# Altium schematic symbol library 430 integreted.SchLib: 270 symbols (part 1 of 2)
Pins are listed as number, name and electrical type; pins without a type are passive.

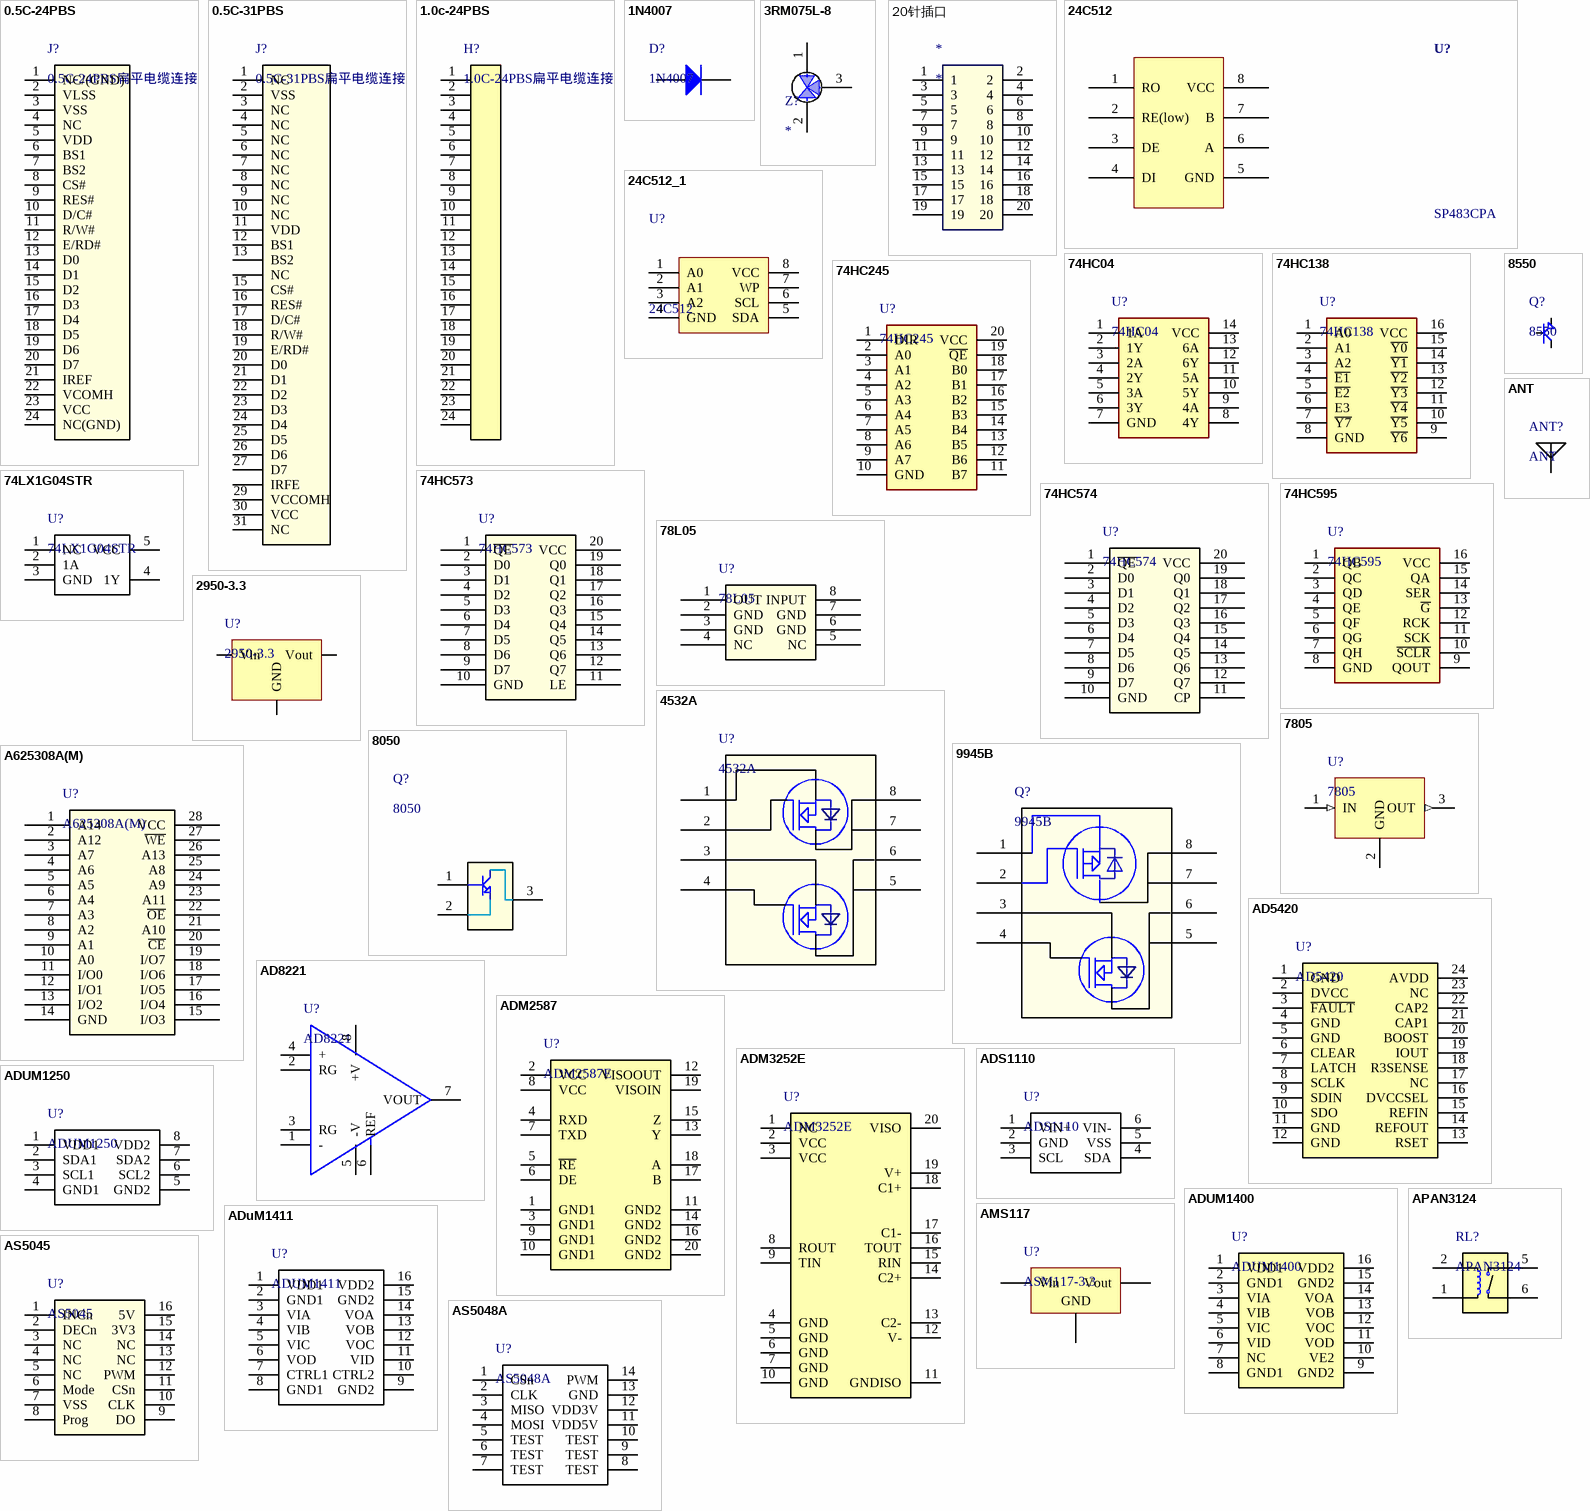
[diagram p0: symbols 0.5C-24PBS to AS5048A]

## 0.5C-24PBS
designator J?, comment 0.5C-24PBS扁平电缆连接器
footprint 0.5C-24PBS
pins: 1 NC/(GND), 2 VLSS, 3 VSS, 4 NC, 5 VDD, 6 BS1, 7 BS2, 8 CS#, 9 RES#, 10 D/C#, 11 R/W#, 12 E/RD#, 13 D0, 14 D1, 15 D2, 16 D3, 17 D4, 18 D5, 19 D6, 20 D7, 21 IREF, 22 VCOMH, 23 VCC, 24 NC(GND)

## 0.5C-31PBS
designator J?, comment 0.5C-31PBS扁平电缆连接器
footprint 0.5C-31PBS
pins: 1 NC, 2 VSS, 3 NC, 4 NC, 5 NC, 6 NC, 7 NC, 8 NC, 9 NC, 10 NC, 11 VDD, 12 BS1, 13 BS2, 14 NC, 15 CS#, 16 RES#, 17 D/C#, 18 R/W#, 19 E/RD#, 20 D0, 21 D1, 22 D2, 23 D3, 24 D4, 25 D5, 26 D6, 27 D7, 28 IRFE, 29 VCCOMH, 30 VCC, 31 NC

## 1.0c-24PBS
designator H?, comment 1.0C-24PBS扁平电缆连接器
footprint FPC1.0C-24PBS
pins: 1, 2, 3, 4, 5, 6, 7, 8, 9, 10, 11, 12, 13, 14, 15, 16, 17, 18, 19, 20, 21, 22, 23, 24

## 1N4007
designator D?
footprint DO-41
footprint SQ040
pins: 1 A, 2 K

## 3RM075L-8
designator Z?
3RM075L-8
footprint 1080
pins: 1, 2, 3

## 20针插口
designator *
footprint IDC20-M
pins: 1, 2, 3, 4, 5, 6, 7, 8, 9, 10, 11, 12, 13, 14, 15, 16, 17, 18, 19, 20

## 24C512
designator U?, comment SP483CPA
footprint SO-8
pins: 1 RO, 2 RE(low), 3 DE, 4 DI, 5 GND, 6 A, 7 B, 8 VCC

## 24C512_1
designator U?, comment 24C512
footprint SO-8
pins: 1 A0, 2 A1, 3 A2, 4 GND, 5 SDA, 6 SCL, 7 WP, 8 VCC

## 74HC04
designator U?
footprint DIP14 - duplicate
pins: 1 1A, 2 1Y, 3 2A, 4 2Y, 5 3A, 6 3Y, 7 GND, 8 4Y, 9 4A, 10 5Y, 11 5A, 12 6Y, 13 6A, 14 VCC

## 74HC138
designator U?
footprint DIP16
pins: 1 A0, 2 A1, 3 A2, 4 ~{E1}, 5 ~{E2}, 6 E3, 7 ~{Y7}, 8 GND, 9 ~{Y6}, 10 ~{Y5}, 11 ~{Y4}, 12 ~{Y3}, 13 ~{Y2}, 14 ~{Y1}, 15 ~{Y0}, 16 VCC

## 74HC245
designator U?
footprint DIP20
pins: 1 DIR, 2 A0, 3 A1, 4 A2, 5 A3, 6 A4, 7 A5, 8 A6, 9 A7, 10 GND, 11 B7, 12 B6, 13 B5, 14 B4, 15 B3, 16 B2, 17 B1, 18 B0, 19 ~{QE}, 20 VCC

## 74HC573
designator U?
footprint SOIC20
pins: 1 ~{QE}, 2 D0, 3 D1, 4 D2, 5 D3, 6 D4, 7 D5, 8 D6, 9 D7, 10 GND, 11 LE, 12 Q7, 13 Q6, 14 Q5, 15 Q4, 16 Q3, 17 Q2, 18 Q1, 19 Q0, 20 VCC

## 74HC574
designator U?
footprint SSOP-20
pins: 1 ~{QE}, 2 D0, 3 D1, 4 D2, 5 D3, 6 D4, 7 D5, 8 D6, 9 D7, 10 GND, 11 CP, 12 Q7, 13 Q6, 14 Q5, 15 Q4, 16 Q3, 17 Q2, 18 Q1, 19 Q0, 20 VCC

## 74HC595
designator U?
footprint DIP16
pins: 1 QB, 2 QC, 3 QD, 4 QE, 5 QF, 6 QG, 7 QH, 8 GND, 9 QOUT, 10 ~{SCLR}, 11 SCK, 12 RCK, 13 ~{G}, 14 SER, 15 QA, 16 VCC

## 74LX1G04STR
designator U?
footprint SOT23-5
pins: 1 NC, 2 1A, 3 GND, 4 1Y, 5 VCC

## 78L05
designator U?
footprint SO-8
pins: 1 OUT, 2 GND, 3 GND, 4 NC, 5 NC, 6 GND, 7 GND, 8 INPUT

## 2950-3.3
designator U?
footprint TO-92A
pins: 1 Vin, 2 GND, 3 Vout

## 4532A
designator U?
footprint SO-8
pins: 1, 2 S, 2, 3, 4, 5, 6, 7, 8

## 7805
designator U?
footprint 7805
pins: 1 IN (in), 2 GND, 3 OUT (out)

## 8050
designator Q?
footprint SOP-23A - duplicate
pins: 1, 2, 3

## 8550
designator Q?
footprint SOT-23_A
pins: 1 B (in), 2 C, 3 E

## 9945B
designator Q?
footprint SO-8
pins: 1, 2, 3, 4, 5, 6, 7, 8

## A625308A(M)
designator U?
footprint SOIC-SO28_M
pins: 1 A14, 2 A12, 3 A7, 4 A6, 5 A5, 6 A4, 7 A3, 8 A2, 9 A1, 10 A0, 11 I/O0, 12 I/O1, 13 I/O2, 14 GND, 15 I/O3, 16 I/O4, 17 I/O5, 18 I/O6, 19 I/O7, 20 ~{CE}, 21 A10, 22 ~{OE}, 23 A11, 24 A9, 25 A8, 26 A13, 27 ~{WE}, 28 VCC

## AD5420
designator U?
footprint SOP24
pins: 1 GND, 2 DVCC, 3 ~{FAULT}, 4 GND, 5 GND, 6 CLEAR, 7 LATCH, 8 SCLK, 9 SDIN, 10 SDO, 11 GND, 12 GND, 13 RSET, 14 REFOUT, 15 REFIN, 16 DVCCSEL, 17 NC, 18 R3SENSE, 19 IOUT, 20 BOOST, 21 CAP1, 22 CAP2, 23 NC, 24 AVDD

## AD8221
designator U?
footprint MSOP-8
pins: 1 -, 2 RG, 3 RG, 4 +, 5 -V, 6 REF, 7 VOUT, 8 +V

## ADM2587
designator U?, comment ADM2587E
footprint SOIC20
pins: 1 GND1, 2 VCC, 3 GND1, 4 RXD, 5 ~{RE}, 6 DE, 7 TXD, 8 VCC, 9 GND1, 10 GND1, 11 GND2, 12 VISOOUT, 13 Y, 14 GND2, 15 Z, 16 GND2, 17 B, 18 A, 19 VISOIN, 20 GND2

## ADM3252E
designator U?
footprint SOIC20
pins: 1 NC, 2 VCC, 3 VCC, 4 GND, 5 GND, 6 GND, 7 GND, 8 ROUT, 9 TIN, 10 GND, 11 GNDISO, 12 V-, 13 C2-, 14 C2+, 15 RIN, 16 TOUT, 17 C1-, 18 C1+, 19 V+, 20 VISO

## ADS1110
designator U?
footprint SOT23-6L
pins: 1 VIN+, 2 GND, 3 SCL, 4 SDA, 5 VSS, 6 VIN-

## ADUM1250
designator U?
footprint SO-8
pins: 1 VDD1, 2 SDA1, 3 SCL1, 4 GND1, 5 GND2, 6 SCL2, 7 SDA2, 8 VDD2

## ADUM1400
designator U?
footprint SOIC16
pins: 1 VDD1, 2 GND1, 3 VIA, 4 VIB, 5 VIC, 6 VID, 7 NC, 8 GND1, 9 GND2, 10 VE2, 11 VOD, 12 VOC, 13 VOB, 14 VOA, 15 GND2, 16 VDD2

## ADuM1411
designator U?, comment ADUM1411
footprint SOIC16
pins: 1 VDD1, 2 GND1, 3 VIA, 4 VIB, 5 VIC, 6 VOD, 7 CTRL1, 8 GND1, 9 GND2, 10 CTRL2, 11 VID, 12 VOC, 13 VOB, 14 VOA, 15 GND2, 16 VDD2

## AMS117
designator U?, comment ASM117-3.3
footprint SOT-223
footprint TO-220
pins: 1 GND, 2 Vout, 3 Vin

## ANT
designator ANT?
footprint ANT
pins: 1

## APAN3124
designator RL?
footprint APAN3124
pins: 1, 2, 5, 6

## AS5045
designator U?
footprint SOP16
pins: 1 INCn, 2 DECn, 3 NC, 4 NC, 5 NC, 6 Mode, 7 VSS, 8 Prog, 9 DO, 10 CLK, 11 CSn, 12 PWM, 13 NC, 14 NC, 15 3V3, 16 5V

## AS5048A
designator U?
footprint TSSOP14
pins: 1 CSn, 2 CLK, 3 MISO, 4 MOSI, 5 TEST, 6 TEST, 7 TEST, 8 TEST, 9 TEST, 10 TEST, 11 VDD5V, 12 VDD3V, 13 GND, 14 PWM

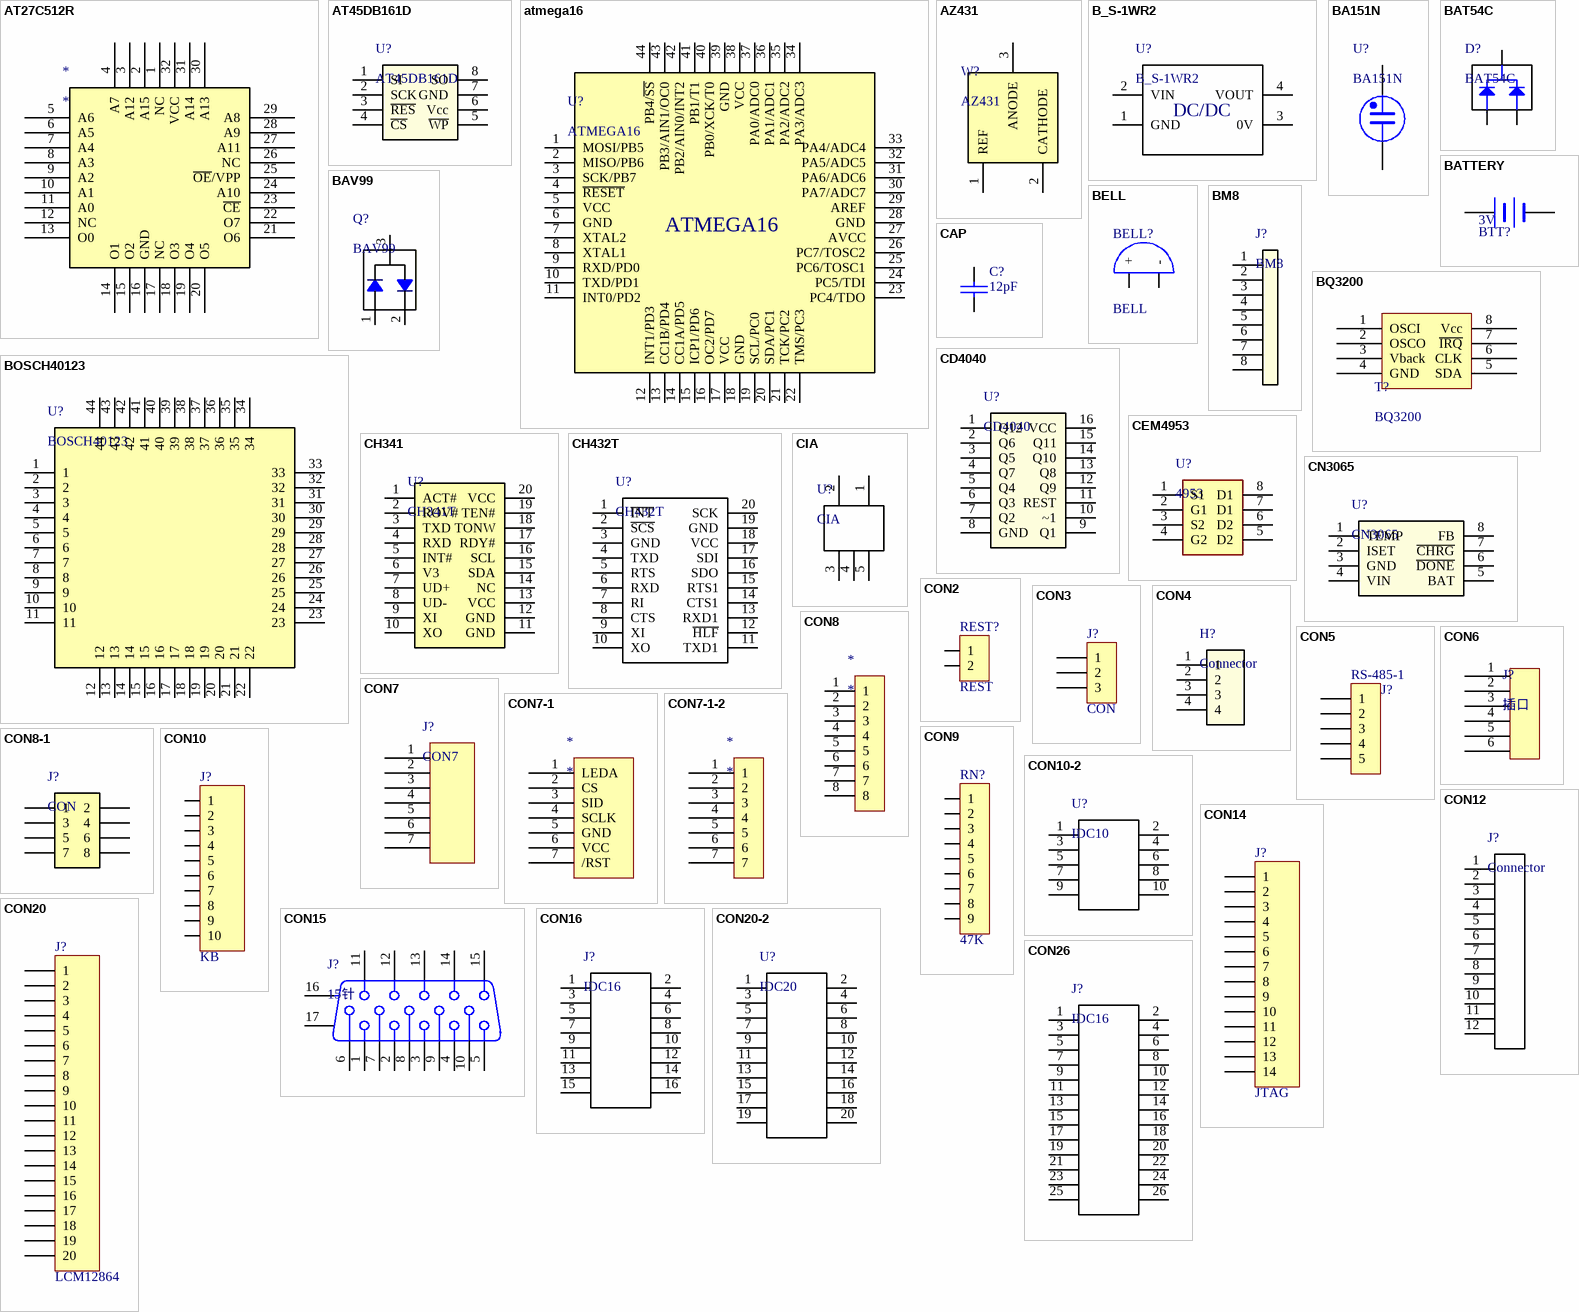
[diagram p1: symbols AT27C512R to CON26]

## AT27C512R
designator *
pins: 1 NC, 2 A15, 3 A12, 4 A7, 5 A6, 6 A5, 7 A4, 8 A3, 9 A2, 10 A1, 11 A0, 12 NC, 13 O0, 14 O1, 15 O2, 16 GND, 17 NC, 18 O3, 19 O4, 20 O5, 21 O6, 22 O7, 23 ~{CE}, 24 A10, 25 ~{OE}/VPP, 26 NC, 27 A11, 28 A9, 29 A8, 30 A13, 31 A14, 32 VCC

## AT45DB161D
designator U?
footprint SOIC8
pins: 1 SI, 2 SCK, 3 ~{RES}, 4 ~{CS}, 5 ~{WP}, 6 Vcc, 7 GND, 8 SO

## atmega16
designator U?, comment ATMEGA16
footprint Quad44
pins: 1 MOSI/PB5, 2 MISO/PB6, 3 SCK/PB7, 4 ~{RESET}, 5 VCC, 6 GND, 7 XTAL2, 8 XTAL1, 9 RXD/PD0, 10 TXD/PD1, 11 INT0/PD2, 12 INT1/PD3, 13 CC1B/PD4, 14 CC1A/PD5, 15 ICP1/PD6, 16 OC2/PD7, 17 VCC, 18 GND, 19 SCL/PC0, 20 SDA/PC1, 21 TCK/PC2, 22 TMS/PC3, 23 PC4/TDO, 24 PC5/TDI, 25 PC6/TOSC1, 26 PC7/TOSC2, 27 AVCC, 28 GND, 29 AREF, 30 PA7/ADC7, 31 PA6/ADC6, 32 PA5/ADC5, 33 PA4/ADC4, 34 PA3/ADC3, 35 PA2/ADC2, 36 PA1/ADC1, 37 PA0/ADC0, 38 VCC, 39 GND, 40 PB0/XCK/T0, 41 PB1/T1, 42 PB2/AIN0/INT2, 43 PB3/AIN1/OC0, 44 PB4/~{SS}

## AZ431
designator W?
footprint SOT-23
pins: 1 REF, 2 CATHODE, 3 ANODE

## B_S-1WR2
designator U?
footprint B_S-1WR2
pins: 1 GND, 2 VIN, 3 0V, 4 VOUT
text: DC/DC

## BA151N
designator U?
footprint BA151
pins: 1, 2

## BAT54C
designator D?
footprint SOT-23_A
pins: 1, 2, 3

## BATTERY
designator BTT?, comment 3V
Battery
footprint CR1220
footprint CR1/3N
pins: 1, 2

## BAV99
designator Q?
footprint SOT-23
pins: 1, 2, 3

## BELL
designator BELL?
footprint BELL_12V
footprint BEEP-9*5.5mm
pins: 1 +, 2 -

## BM8
designator J?
footprint TO8
footprint SI-8
footprint SI-8-I
pins: 1, 2, 3, 4, 5, 6, 7, 8

## BOSCH40123
designator U?
pins: 1, 2, 3, 4, 5, 6, 7, 8, 9, 10, 11, 12, 13, 14, 15, 16, 17, 18, 19, 20, 21, 22, 23, 24, 25, 26, 27, 28, 29, 30, 31, 32, 33, 34, 35, 36, 37, 38, 39, 40, 41, 42, 43, 44

## BQ3200
designator T?
footprint SOP8
pins: 1 OSCI, 2 OSCO, 3 Vback, 4 GND, 5 SDA, 6 CLK, 7 ~{IRQ}, 8 Vcc

## CAP
designator C?, comment 12pF
Capacitor
footprint 0805
footprint 0805-O
footprint 0402-1
footprint 0805-1
footprint C0805
footprint C0603
footprint C0402
footprint C1206
pins: 1, 2

## CD4040
designator U?
footprint SO-16
pins: 1 Q12, 2 Q6, 3 Q5, 4 Q7, 5 Q4, 6 Q3, 7 Q2, 8 GND, 9 Q1, 10 ~1, 11 REST, 12 Q9, 13 Q8, 14 Q10, 15 Q11, 16 VCC

## CEM4953
designator U?, comment 4953
pins: 1 S1, 2 G1, 3 S2, 4 G2, 5 D2, 6 D2, 7 D1, 8 D1

## CH341
designator U?, comment CH341T
footprint SSOP-20
pins: 1 ACT#, 2 ROV#, 3 TXD, 4 RXD, 5 INT#, 6 V3, 7 UD+, 8 UD-, 9 XI, 10 XO, 11 GND, 12 GND, 13 VCC, 14 NC, 15 SDA, 16 SCL, 17 RDY#, 18 TONW, 19 TEN#, 20 VCC

## CH432T
designator U?
footprint SSOP-20
pins: 1 ~{INT}, 2 ~{SCS}, 3 GND, 4 TXD, 5 RTS, 6 RXD, 7 RI, 8 CTS, 9 XI, 10 XO, 11 TXD1, 12 ~{HLF}, 13 RXD1, 14 CTS1, 15 RTS1, 16 SDO, 17 SDI, 18 VCC, 19 GND, 20 SCK

## CIA
designator U?
pins: 1, 2, 3, 4, 5

## CN3065
designator U?
footprint DFN8
footprint DFN8
pins: 1 TEMP, 2 ISET, 3 GND, 4 VIN, 5 BAT, 6 ~{DONE}, 7 ~{CHRG}, 8 FB

## CON2
designator REST?, comment REST
Connector
footprint SIP2
footprint XH2.54-2P_直
footprint SIP2-5.08
footprint SIP2-4.8
footprint POT2
footprint CON2-5.08
footprint XH2.54-2
footprint XH1.25
footprint SIP2mm-2
footprint SIP1.27mm-2
footprint CON1.25mm
footprint 2PIN-5.08A
pins: 1, 2

## CON3
designator J?, comment CON
Connector
footprint XH2.54-3P_直
footprint YP
footprint SIP2mm-3
footprint SIP1.27mm-3
pins: 1, 2, 3

## CON4
designator H?, comment Connector
footprint XH2.54-4P_直
footprint CH2.5-4
footprint POT4
footprint PUOT4
footprint SIP2mm-4
footprint SIP1.27mm-4
footprint EELK508V-4
pins: 1, 2, 3, 4

## CON5
designator J?, comment RS-485-1
Connector
footprint XH2.54-5P_直
footprint SIP-5
footprint CH2.5-5
footprint SIP5.0-5
pins: 1, 2, 3, 4, 5

## CON6
designator J?, comment 插口
footprint XH2.54-6P_直
footprint SIP6
footprint SIP6-1
footprint CH2.5-6
footprint CON6-1
footprint CON6-1
footprint CON6-5.08
footprint FPC6PIN-0.5
footprint EELK508V-6
pins: 1, 2, 3, 4, 5, 6

## CON7
designator J?
footprint XH2.54-7P_直
footprint A1251(TX)
pins: 1, 2, 3, 4, 5, 6, 7

## CON7-1
designator *
footprint SIP-7
pins: 1 LEDA, 2 CS, 3 SID, 4 SCLK, 5 GND, 6 VCC, 7 /RST

## CON7-1-2
designator *
footprint SIP-7
pins: 1, 2, 3, 4, 5, 6, 7

## CON8
designator *
footprint DIP8
footprint XH2.54-8P_弯
footprint A1251(TX)
footprint SIP2mm-8
footprint SIP1.27mm-8
pins: 1, 2, 3, 4, 5, 6, 7, 8

## CON8-1
designator J?, comment CON
pins: 1, 2, 3, 4, 5, 6, 7, 8

## CON9
designator RN?, comment 47K
Connector
footprint SIP9
pins: 1, 2, 3, 4, 5, 6, 7, 8, 9

## CON10
designator J?, comment KB
Connector
footprint SIP10
footprint CON10
footprint DIP10 - duplicate
footprint SIP10-5.0
footprint XH2.54-10P_直 - duplicate
pins: 1, 2, 3, 4, 5, 6, 7, 8, 9, 10

## CON10-2
designator U?, comment IDC10
pins: 1, 2, 3, 4, 5, 6, 7, 8, 9, 10

## CON12
designator J?, comment Connector
pins: 1, 2, 3, 4, 5, 6, 7, 8, 9, 10, 11, 12

## CON14
designator J?, comment JTAG
Connector
footprint IDC14W
footprint 15EDGRC-3.5-14P
pins: 1, 2, 3, 4, 5, 6, 7, 8, 9, 10, 11, 12, 13, 14

## CON15
designator J?, comment 15针
footprint CON15
pins: 1, 2, 3, 4, 5, 6, 7, 8, 9, 10, 11, 12, 13, 14, 15, 16 MH1, 17 MH2

## CON16
designator J?, comment IDC16
footprint IDC2.54-16
pins: 1, 2, 3, 4, 5, 6, 7, 8, 9, 10, 11, 12, 13, 14, 15, 16

## CON20
designator J?, comment LCM12864
Connector
footprint IDC20-M
footprint DIP20
pins: 1, 2, 3, 4, 5, 6, 7, 8, 9, 10, 11, 12, 13, 14, 15, 16, 17, 18, 19, 20

## CON20-2
designator U?, comment IDC20
pins: 1, 2, 3, 4, 5, 6, 7, 8, 9, 10, 11, 12, 13, 14, 15, 16, 17, 18, 19, 20

## CON26
designator J?, comment IDC16
footprint IDC2.54-26
pins: 1, 2, 3, 4, 5, 6, 7, 8, 9, 10, 11, 12, 13, 14, 15, 16, 17, 18, 19, 20, 21, 22, 23, 24, 25, 26

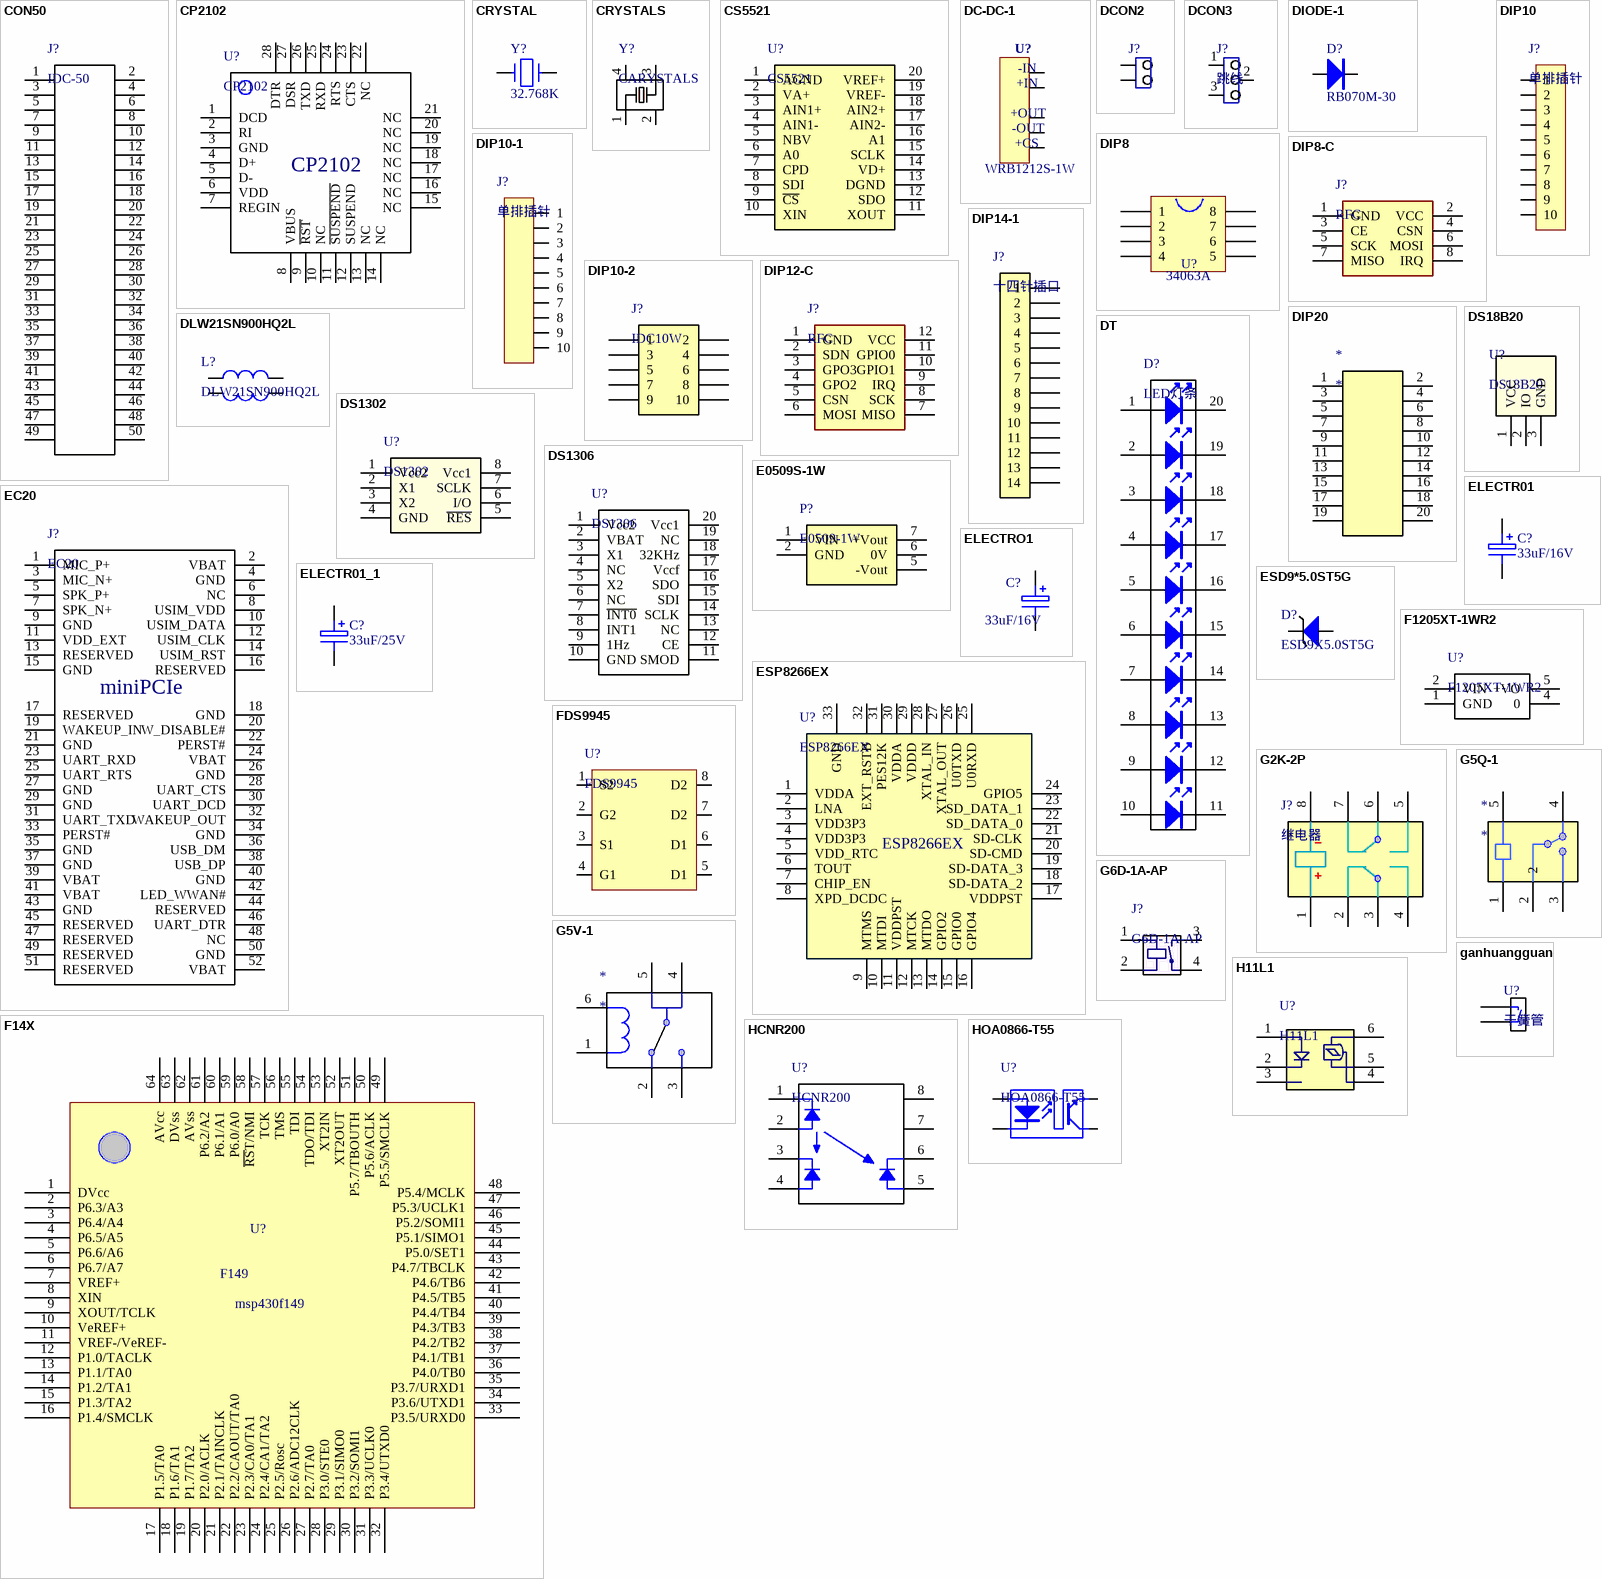
[diagram p2: symbols CON50 to HOA0866-T55]

## CON50
designator J?, comment IDC-50
footprint IDC2X25-50
pins: 1, 2, 3, 4, 5, 6, 7, 8, 9, 10, 11, 12, 13, 14, 15, 16, 17, 18, 19, 20, 21, 22, 23, 24, 25, 26, 27, 28, 29, 30, 31, 32, 33, 34, 35, 36, 37, 38, 39, 40, 41, 42, 43, 44, 45, 46, 47, 48, 49, 50

## CP2102
designator U?
footprint QFN28N (QFN, 28-Leads, Body 5.0x5.0mm (max), Pitch 0.50mm, IPC Medium Density)
pins: 1 DCD, 2 RI, 3 GND, 4 D+, 5 D-, 6 VDD, 7 REGIN, 8 VBUS, 9 ~{RST}, 10 NC, 11 ~{SUSPEND}, 12 SUSPEND, 13 NC, 14 NC, 15 NC, 16 NC, 17 NC, 18 NC, 19 NC, 20 NC, 21 NC, 22 NC, 23 CTS, 24 RTS, 25 RXD, 26 TXD, 27 DSR, 28 DTR

## CRYSTAL
designator Y?, comment 32.768K
Crystal
footprint CR32768
footprint CM200S
footprint CRS
footprint 3225
footprint XTAL-QC49/SMD
footprint XTAL_32.768 (32.768k柱式晶振（未加焊）)
footprint XTAL_3215
pins: 1, 2

## CRYSTALS
designator Y?, comment CARYSTALS
footprint 2520
pins: 1, 2, 3, 4

## CS5521
designator U?
footprint SSOP-20
pins: 1 AGND, 2 VA+, 3 AIN1+, 4 AIN1-, 5 NBV, 6 A0, 7 CPD, 8 SDI, 9 ~{CS}, 10 XIN, 11 XOUT, 12 SDO, 13 DGND, 14 VD+, 15 SCLK, 16 A1, 17 AIN2-, 18 AIN2+, 19 VREF-, 20 VREF+

## DC-DC-1
designator U?, comment WRB1212S-1W
footprint PART3
pins: 1, 2, 3, 4, 5
text: -IN; +IN; +OUT; -OUT; +CS

## DCON2
designator J?, comment 跳线  (value not drawn)
footprint DIP2
pins: 1, 2

## DCON3
designator J?, comment 跳线
footprint DIP3
pins: 1, 2, 3

## DIODE-1
designator D?, comment RB070M-30
footprint 3216
footprint EMD2
footprint 3528
footprint 3936
footprint SMB
footprint D0805
footprint SOD-323
footprint SOD123
footprint SMA
pins: 1, 2

## DIP8
designator U?, comment 34063A
footprint SO-8
pins: 1, 2, 3, 4, 5, 6, 7, 8

## DIP8-C
designator J?, comment RFC
footprint DIP4-C
pins: 1 GND, 2 VCC, 3 CE, 4 CSN, 5 SCK, 6 MOSI, 7 MISO, 8 IRQ

## DIP10
designator J?, comment 单排插针
footprint DIP10
pins: 1, 2, 3, 4, 5, 6, 7, 8, 9, 10

## DIP10-1
designator J?, comment 单排插针
footprint DIP10
pins: 1, 2, 3, 4, 5, 6, 7, 8, 9, 10

## DIP10-2
designator J?, comment IDC10W
footprint IDC10W
pins: 1, 2, 3, 4, 5, 6, 7, 8, 9, 10

## DIP12-C
designator J?, comment RFC
footprint DIP12-C
pins: 1 GND, 2 SDN, 3 GPO3, 4 GPO2, 5 CSN, 6 MOSI, 7 MISO, 8 SCK, 9 IRQ, 10 GPIO1, 11 GPIO0, 12 VCC

## DIP14-1
designator J?, comment 十四针插口
footprint IDC14W
pins: 1, 2, 3, 4, 5, 6, 7, 8, 9, 10, 11, 12, 13, 14

## DIP20
designator *
footprint IDC20-M
pins: 1, 2, 3, 4, 5, 6, 7, 8, 9, 10, 11, 12, 13, 14, 15, 16, 17, 18, 19, 20

## DLW21SN900HQ2L
designator L?
footprint SMD-4
pins: 1, 2, 3, 4

## DS18B20
designator U?
footprint TO-92A
pins: 1 VCC, 2 IO, 3 GND

## DS1302
designator U?
footprint SO-8
pins: 1 Vcc2, 2 X1, 3 X2, 4 GND, 5 ~{RES}, 6 I/O, 7 SCLK, 8 Vcc1

## DS1306
designator U?
footprint SOP20 - duplicate
pins: 1 Vcc2, 2 VBAT, 3 X1, 4 NC, 5 X2, 6 NC, 7 ~{INT0}, 8 INT1, 9 1Hz, 10 GND, 11 SMOD, 12 CE, 13 NC, 14 SCLK, 15 SDI, 16 SDO, 17 Vccf, 18 32KHz, 19 NC, 20 Vcc1

## DT
designator D?, comment LED灯条
footprint DT
pins: 1, 1, 1, 1, 1, 1, 1, 1, 1, 1, 1, 2, 2, 2, 2, 2, 2, 2, 2, 2, 2, 2, 3, 4, 5, 6, 7, 8, 9, 10, 11, 12, 13, 14, 15, 16, 17, 18, 19, 20

## E0509S-1W
designator P?, comment E0509-1W
footprint E0509
pins: 1 VIN, 2 GND, 5 -Vout, 6 0V, 7 +Vout

## EC20
designator J?
footprint miniPCIe
pins: 1 MIC_P+, 2 VBAT, 3 MIC_N+, 4 GND, 5 SPK_P+, 6 NC, 7 SPK_N+, 8 USIM_VDD, 9 GND, 10 USIM_DATA, 11 VDD_EXT, 12 USIM_CLK, 13 RESERVED, 14 USIM_RST, 15 GND, 16 RESERVED, 17 RESERVED, 18 GND, 19 WAKEUP_IN, 20 W_DISABLE#, 21 GND, 22 PERST#, 23 UART_RXD, 24 VBAT, 25 UART_RTS, 26 GND, 27 GND, 28 UART_CTS, 29 GND, 30 UART_DCD, 31 UART_TXD, 32 WAKEUP_OUT, 33 PERST#, 34 GND, 35 GND, 36 USB_DM, 37 GND, 38 USB_DP, 39 VBAT, 40 GND, 41 VBAT, 42 LED_WWAN#, 43 GND, 44 RESERVED, 45 RESERVED, 46 UART_DTR, 47 RESERVED, 48 NC, 49 RESERVED, 50 GND, 51 RESERVED, 52 VBAT
text: miniPCIe

## ELECTR01
designator C?, comment 33uF/16V
footprint MLL41
footprint 3528
footprint 0.5C-24PBS
footprint C10x16
footprint C5X8
footprint C3216
footprint C13x20
pins: 1, 2

## ELECTR01_1
designator C?, comment 33uF/25V
footprint 7243
pins: 1, 2

## ELECTRO1
designator C?, comment 33uF/16V
Electrolytic Capacitor
footprint MLL41
footprint C7343 (D型)
footprint C10X10
footprint C8*10
footprint C3258
footprint C6.3X6.3
pins: 1, 2

## ESD9*5.0ST5G
designator D?, comment ESD9X5.0ST5G
footprint SOD-923
footprint SOD523
pins: 1, 2

## ESP8266EX
designator U?
footprint QFN32
pins: 1 VDDA, 2 LNA, 3 VDD3P3, 4 VDD3P3, 5 VDD_RTC, 6 TOUT, 7 CHIP_EN, 8 XPD_DCDC, 9 MTMS, 10 MTDI, 11 VDDPST, 12 MTCK, 13 MTDO, 14 GPIO2, 15 GPIO0, 16 GPIO4, 17 VDDPST, 18 SD-DATA_2, 19 SD-DATA_3, 20 SD-CMD, 21 SD-CLK, 22 SD_DATA_0, 23 SD_DATA_1, 24 GPIO5, 25 U0RXD, 26 U0TXD, 27 XTAL_OUT, 28 XTAL_IN, 29 VDDD, 30 VDDA, 31 PES12K, 32 EXT_RSTB, 33 GND

## F14X
designator U?, comment F149
footprint PQFP64_1
footprint QFP-G64
pins: 1 DVcc (power), 2 P6.3/A3 (power), 3 P6.4/A4 (power), 4 P6.5/A5 (power), 5 P6.6/A6 (power), 6 P6.7/A7 (power), 7 VREF+ (power), 8 XIN (power), 9 XOUT/TCLK (power), 10 VeREF+ (power), 11 VREF-/VeREF- (power), 12 P1.0/TACLK (power), 13 P1.1/TA0 (power), 14 P1.2/TA1 (power), 15 P1.3/TA2 (power), 16 P1.4/SMCLK (power), 17 P1.5/TA0 (power), 18 P1.6/TA1 (power), 19 P1.7/TA2 (power), 20 P2.0/ACLK (power), 21 P2.1/TAINCLK (power), 22 P2.2/CAOUT/TA0 (power), 23 P2.3/CA0/TA1 (power), 24 P2.4/CA1/TA2 (power), 25 P2.5/Rosc (power), 26 P2.6/ADC12CLK (power), 27 P2.7/TA0 (power), 28 P3.0/STE0 (power), 29 P3.1/SIMO0 (power), 30 P3.2/SOMI1 (power), 31 P3.3/UCLK0 (power), 32 P3.4/UTXD0 (power), 33 P3.5/URXD0 (power), 34 P3.6/UTXD1 (power), 35 P3.7/URXD1 (power), 36 P4.0/TB0 (power), 37 P4.1/TB1 (power), 38 P4.2/TB2 (power), 39 P4.3/TB3 (power), 40 P4.4/TB4 (power), 41 P4.5/TB5 (power), 42 P4.6/TB6 (power), 43 P4.7/TBCLK (power), 44 P5.0/SET1 (power), 45 P5.1/SIMO1 (power), 46 P5.2/SOMI1 (power), 47 P5.3/UCLK1 (power), 48 P5.4/MCLK (power), 49 P5.5/SMCLK (power), 50 P5.6/ACLK (power), 51 P5.7/TBOUTH (power), 52 XT2OUT (power), 53 XT2IN (power), 54 TDO/TDI (power), 55 TDI (power), 56 TMS (power), 57 TCK (power), 58 ~{RS}T/NMI (power), 59 P6.0/A0 (power), 60 P6.1/A1 (power), 61 P6.2/A2 (power), 62 AVss (power), 63 DVss (power), 64 AVcc (power)
text: msp430f149

## F1205XT-1WR2
designator U?
footprint F_XT-1WR2
pins: 1 GND, 2 VIN, 4 0, 5 +VO

## FDS9945
designator U?
footprint SO-8
pins: 1 S2, 2 G2, 3 S1, 4 G1, 5 D1, 6 D1, 7 D2, 8 D2

## G2K-2P
designator J?, comment 继电器
footprint G6K-2P
pins: 1, 2, 3, 4, 5, 6, 7, 8

## G5Q-1
designator *
footprint G5Q-1
pins: 1, 2, 3, 4, 5

## G5V-1
designator *
footprint G5V-1
pins: 1, 2, 3, 4, 5, 6

## G6D-1A-AP
designator J?
footprint G6D-1A-AP
pins: 1, 2, 3, 4

## ganhuangguan
designator U?, comment 干簧管
pins: 1, 2

## H11L1
designator U?
footprint SOP6
pins: 1, 2, 3, 4, 5, 6

## HCNR200
designator U?
footprint DIP8-3
pins: 1, 2, 3, 4, 5, 6, 7, 8

## HOA0866-T55
designator U?
pins: 1 A, 2 K, 3 E, 4 C

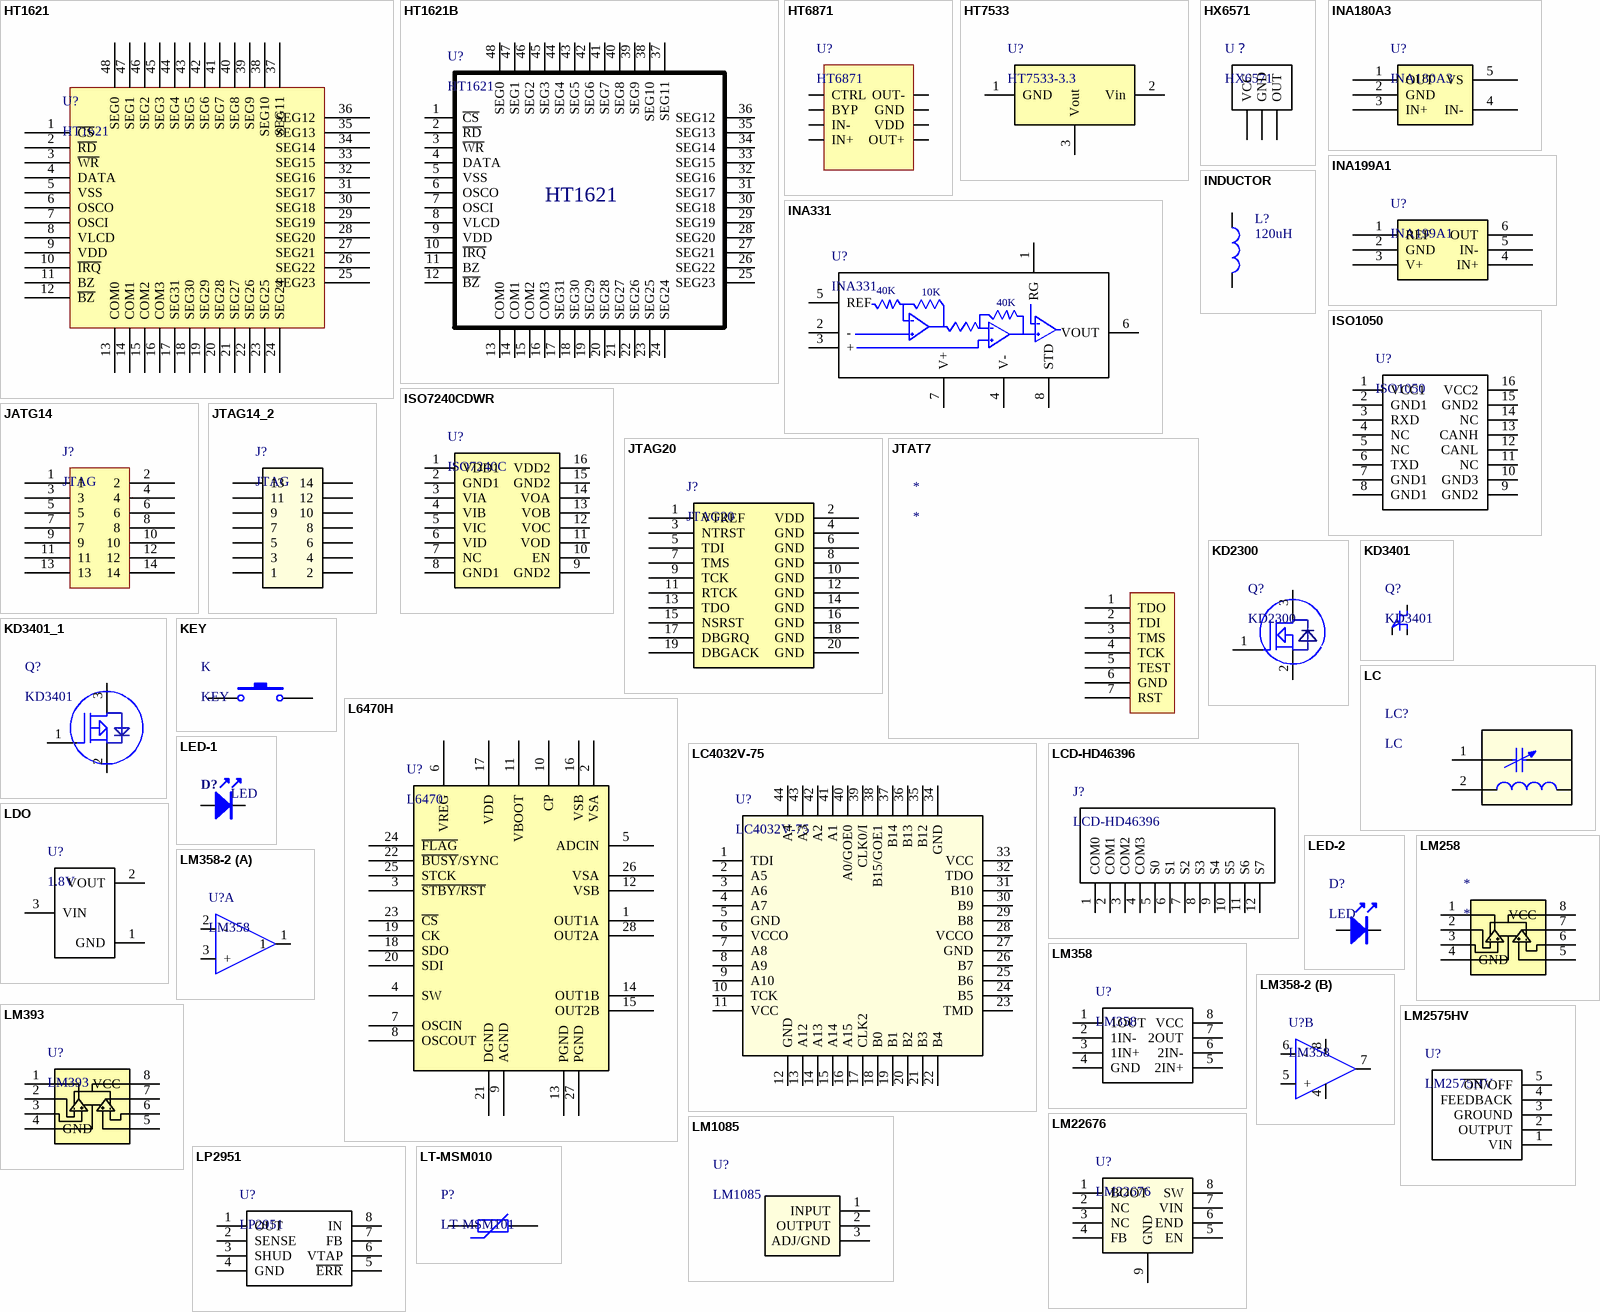
[diagram p3: symbols HT1621 to LT-MSM010]

## HT1621
designator U?
pins: 1 ~{CS}, 2 ~{RD}, 3 ~{WR}, 4 DATA, 5 VSS, 6 OSCO, 7 OSCI, 8 VLCD, 9 VDD, 10 ~{IRQ}, 11 BZ, 12 ~{BZ}, 13 COM0, 14 COM1, 15 COM2, 16 COM3, 17 SEG31, 18 SEG30, 19 SEG29, 20 SEG28, 21 SEG27, 22 SEG26, 23 SEG25, 24 SEG24, 25 SEG23, 26 SEG22, 27 SEG21, 28 SEG20, 29 SEG19, 30 SEG18, 31 SEG17, 32 SEG16, 33 SEG15, 34 SEG14, 35 SEG13, 36 SEG12, 37 SEG11, 38 SEG10, 39 SEG9, 40 SEG8, 41 SEG7, 42 SEG6, 43 SEG5, 44 SEG4, 45 SEG3, 46 SEG2, 47 SEG1, 48 SEG0

## HT1621B
designator U?, comment HT1621
footprint LC-LQFP-48_7x7x05P
pins: 1 ~{CS}, 2 ~{RD}, 3 ~{WR}, 4 DATA, 5 VSS, 6 OSCO, 7 OSCI, 8 VLCD, 9 VDD, 10 ~{IRQ}, 11 BZ, 12 ~{BZ}, 13 COM0, 14 COM1, 15 COM2, 16 COM3, 17 SEG31, 18 SEG30, 19 SEG29, 20 SEG28, 21 SEG27, 22 SEG26, 23 SEG25, 24 SEG24, 25 SEG23, 26 SEG22, 27 SEG21, 28 SEG20, 29 SEG19, 30 SEG18, 31 SEG17, 32 SEG16, 33 SEG15, 34 SEG14, 35 SEG13, 36 SEG12, 37 SEG11, 38 SEG10, 39 SEG9, 40 SEG8, 41 SEG7, 42 SEG6, 43 SEG5, 44 SEG4, 45 SEG3, 46 SEG2, 47 SEG1, 48 SEG0

## HT6871
designator U?
footprint SO-8
pins: 1 CTRL, 2 BYP, 3 IN-, 4 IN+, 5 OUT+, 6 VDD, 7 GND, 8 OUT-

## HT7533
designator U?, comment HT7533-3.3
footprint SOT-89
pins: 1 GND, 2 Vin, 3 Vout

## HX6571
designator U？
pins: 3 VCC, 4 GND, 5 OUT

## INA180A3
designator U?
footprint SOT23-5
pins: 1 OUT, 2 GND, 3 IN+, 4 IN-, 5 VS

## INA199A1
designator U?
pins: 1 REF, 2 GND, 3 V+, 4 IN+, 5 IN-, 6 OUT

## INA331
designator U?
footprint MSOP-8
pins: 1 RG, 2 -, 3 +, 4 V-, 5 REF, 6 VOUT, 7 V+, 8 STD
text: 40K; 10K

## INDUCTOR
designator L?, comment 120uH
footprint 2.5T
footprint XQ6.5
footprint 0505
footprint 0805-1
footprint GDRH127
footprint CD104NP
footprint L0402
footprint L0402
footprint L0603
pins: 1, 2

## ISO1050
designator U?
footprint SOIC16
pins: 1 VCC1, 2 GND1, 3 RXD, 4 NC, 5 NC, 6 TXD, 7 GND1, 8 GND1, 9 GND2, 10 GND3, 11 NC, 12 CANL, 13 CANH, 14 NC, 15 GND2, 16 VCC2

## ISO7240CDWR
designator U?, comment ISO7240C
footprint SOIC16
pins: 1 VDD1, 2 GND1, 3 VIA, 4 VIB, 5 VIC, 6 VID, 7 NC, 8 GND1, 9 GND2, 10 EN, 11 VOD, 12 VOC, 13 VOB, 14 VOA, 15 GND2, 16 VDD2

## JATG14
designator J?, comment JTAG
footprint DIP14
footprint IDC14W
pins: 1, 2, 3, 4, 5, 6, 7, 8, 9, 10, 11, 12, 13, 14

## JTAG14_2
designator J?, comment JTAG
footprint DIP14
pins: 1, 2, 3, 4, 5, 6, 7, 8, 9, 10, 11, 12, 13, 14

## JTAG20
designator J?
footprint IDC2.54-20
pins: 1 VTREF, 2 VDD, 3 NTRST, 4 GND, 5 TDI, 6 GND, 7 TMS, 8 GND, 9 TCK, 10 GND, 11 RTCK, 12 GND, 13 TDO, 14 GND, 15 NSRST, 16 GND, 17 DBGRQ, 18 GND, 19 DBGACK, 20 GND

## JTAT7
designator *
pins: 1 TDO, 2 TDI, 3 TMS, 4 TCK, 5 TEST, 6 GND, 7 RST

## KD2300
designator Q?
footprint SOT-23
footprint TO252
pins: 1 G, 2 S, 3 D

## KD3401
designator Q?
footprint SOT-23
pins: 1 G, 2 S, 3 D

## KD3401_1
designator Q?, comment KD3401
footprint SOT-23_A
footprint TO-252-2(DPAK)-2
pins: 1 G, 2 S, 3 D

## KEY
designator K
footprint KEY-K2
footprint 6*6*5mm
pins: 1, 2

## L6470H
designator U?, comment L6470
footprint HTSSOP28
pins: 1 OUT1A, 2 VSA, 3 ~{STBY/}~{RST}, 4 SW, 5 ADCIN, 6 VREG, 7 OSCIN, 8 OSCOUT, 9 AGND, 10 CP, 11 VBOOT, 12 VSB, 13 PGND, 14 OUT1B, 15 OUT2B, 16 VSB, 17 VDD, 18 SDO, 19 CK, 20 SDI, 21 DGND, 22 ~{BUSY}/SYNC, 23 ~{CS}, 24 ~{FLAG}, 25 STCK, 26 VSA, 27 PGND, 28 OUT2A

## LC
designator LC?
footprint LC
pins: 1, 2

## LC4032V-75
designator U?
pins: 1 TDI, 2 A5, 3 A6, 4 A7, 5 GND, 6 VCCO, 7 A8, 8 A9, 9 A10, 10 TCK, 11 VCC, 12 GND, 13 A12, 14 A13, 15 A14, 16 A15, 17 CLK2, 18 B0, 19 B1, 20 B2, 21 B3, 22 B4, 23 TMD, 24 B5, 25 B6, 26 B7, 27 GND, 28 VCCO, 29 B8, 30 B9, 31 B10, 32 TDO, 33 VCC, 34 GND, 35 B12, 36 B13, 37 B14, 38 B15/GOE1, 39 CLK0/I, 40 A0/GOE0, 41 A1, 42 A2, 43 A3, 44 A4

## LCD-HD46396
designator J?
footprint LCD-HD46396
pins: 1 COM0, 2 COM1, 3 COM2, 4 COM3, 5 S0, 6 S1, 7 S2, 8 S3, 9 S4, 10 S5, 11 S6, 12 S7

## LDO
designator U?, comment 1.8V
footprint SOT-23_A
pins: 1 GND, 2 VOUT, 3 VIN

## LED-1
designator D?, comment LED
footprint 3216
footprint 0805-L
pins: 1, 2

## LED-2
designator D?, comment LED
footprint 0603LED R
footprint 0402LED
footprint 0603LED B
footprint 0603LED G
footprint LED0805G
pins: 1, 2

## LM258
designator *
footprint SO-8
pins: 1, 2, 3, 4 GND, 5, 6, 7, 8 VCC

## LM358
designator U?
footprint SO-8
pins: 1 1OUT, 2 1IN-, 3 1IN+, 4 GND, 5 2IN+, 6 2IN-, 7 2OUT, 8 VCC

## LM358-2
designator U?, comment LM358
footprint SO-8
part A pins: 1, 2 -, 3 +
part B pins: 4, 5 +, 6 -, 7, 8

## LM393
designator U?
footprint SOP8-2
footprint SO-8
pins: 1, 2, 3, 4 GND, 5, 6, 7, 8 VCC

## LM1085
designator U?
footprint KTT0003B
pins: 1 INPUT, 2 OUTPUT, 3 ADJ/GND

## LM2575HV
designator U?
footprint TO-263
pins: 1 VIN, 2 OUTPUT, 3 GROUND, 4 FEEDBACK, 5 ~{ON}/OFF

## LM22676
designator U?
footprint SOP8-3
pins: 1 BOOT, 2 NC, 3 NC, 4 FB, 5 EN, 6 END, 7 VIN, 8 SW, 9 GND

## LP2951
designator U?
footprint SO-8
pins: 1 OUT, 2 SENSE, 3 SHUD, 4 GND, 5 ~{ERR}, 6 VTAP, 7 FB, 8 IN

## LT-MSM010
designator P?, comment LT-MSM101
footprint 1812
pins: 1, 2

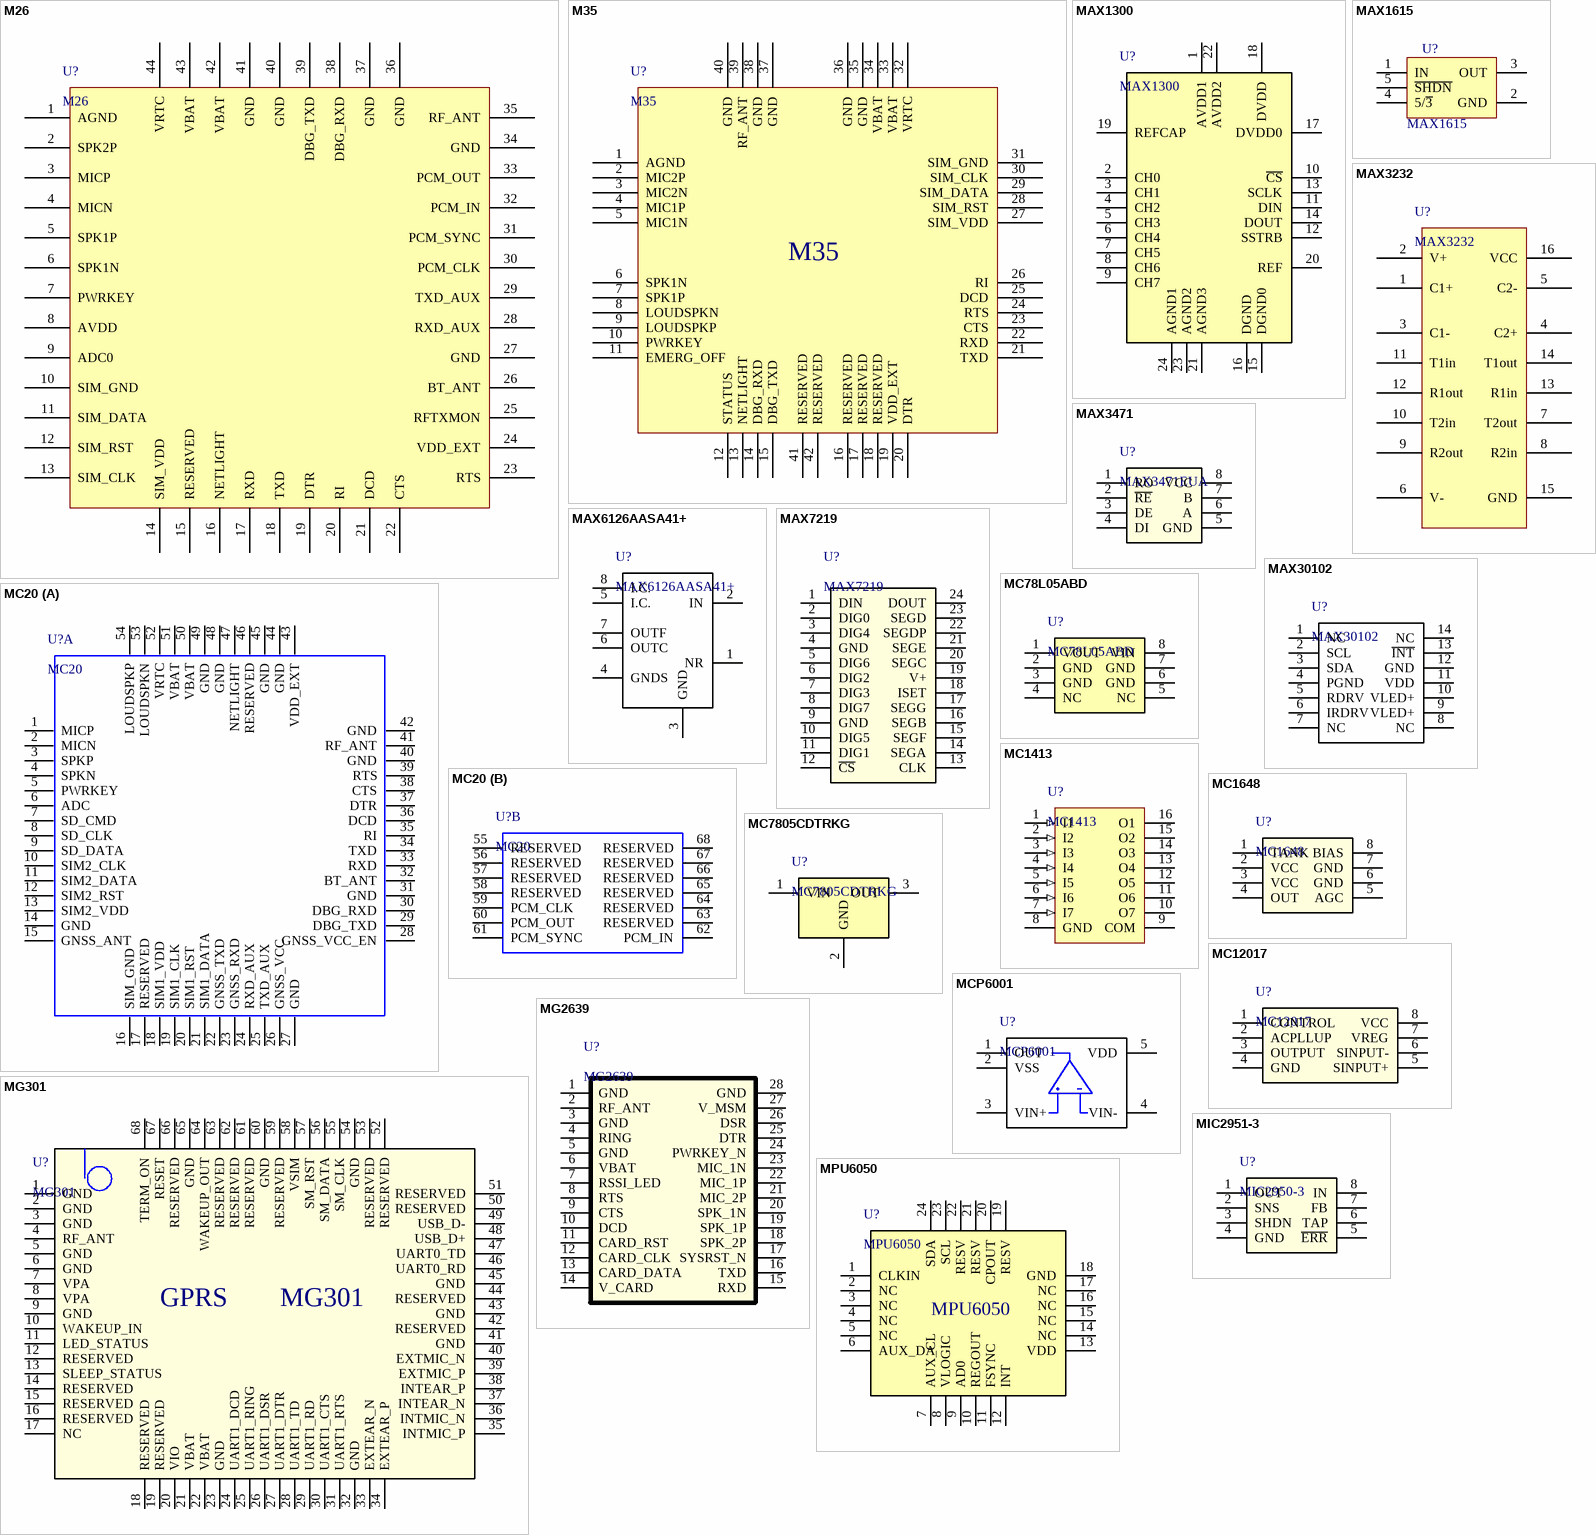
[diagram p4: symbols M26 to MPU6050]

## M26
designator U?
footprint M26
pins: 1 AGND, 2 SPK2P, 3 MICP, 4 MICN, 5 SPK1P, 6 SPK1N, 7 PWRKEY, 8 AVDD, 9 ADC0, 10 SIM_GND, 11 SIM_DATA, 12 SIM_RST, 13 SIM_CLK, 14 SIM_VDD, 15 RESERVED, 16 NETLIGHT, 17 RXD, 18 TXD, 19 DTR, 20 RI, 21 DCD, 22 CTS, 23 RTS, 24 VDD_EXT, 25 RFTXMON, 26 BT_ANT, 27 GND, 28 RXD_AUX, 29 TXD_AUX, 30 PCM_CLK, 31 PCM_SYNC, 32 PCM_IN, 33 PCM_OUT, 34 GND, 35 RF_ANT, 36 GND, 37 GND, 38 DBG_RXD, 39 DBG_TXD, 40 GND, 41 GND, 42 VBAT, 43 VBAT, 44 VRTC

## M35
designator U?
footprint M35
pins: 1 AGND, 2 MIC2P, 3 MIC2N, 4 MIC1P, 5 MIC1N, 6 SPK1N, 7 SPK1P, 8 LOUDSPKN, 9 LOUDSPKP, 10 PWRKEY, 11 EMERG_OFF, 12 STATUS, 13 NETLIGHT, 14 DBG_RXD, 15 DBG_TXD, 16 RESERVED, 17 RESERVED, 18 RESERVED, 19 VDD_EXT, 20 DTR, 21 TXD, 22 RXD, 23 CTS, 24 RTS, 25 DCD, 26 RI, 27 SIM_VDD, 28 SIM_RST, 29 SIM_DATA, 30 SIM_CLK, 31 SIM_GND, 32 VRTC, 33 VBAT, 34 VBAT, 35 GND, 36 GND, 37 GND, 38 GND, 39 RF_ANT, 40 GND, 41 RESERVED, 42 RESERVED

## MAX1300
designator U?
footprint TSS0P24
pins: 1 AVDD1, 2 CH0, 3 CH1, 4 CH2, 5 CH3, 6 CH4, 7 CH5, 8 CH6, 9 CH7, 10 ~{CS}, 11 DIN, 12 SSTRB, 13 SCLK, 14 DOUT, 15 DGND0, 16 DGND, 17 DVDD0, 18 DVDD, 19 REFCAP, 20 REF, 21 AGND3, 22 AVDD2, 23 AGND2, 24 AGND1

## MAX1615
designator U?
footprint SOT23-5
pins: 1 IN, 2 GND, 3 OUT, 4 5/~{3}, 5 ~{SHDN}

## MAX3232
designator U?
footprint SO-16
pins: 1 C1+, 2 V+, 3 C1-, 4 C2+, 5 C2-, 6 V-, 7 T2out, 8 R2in, 9 R2out, 10 T2in, 11 T1in, 12 R1out, 13 R1in, 14 T1out, 15 GND, 16 VCC

## MAX3471
designator U?, comment MAX3471EUA
footprint MSOP-8
pins: 1 RO, 2 ~{RE}, 3 DE, 4 DI, 5 GND, 6 A, 7 B, 8 VCC

## MAX6126AASA41+
designator U?
footprint SO-8
pins: 1 NR, 2 IN, 3 GND, 4 GNDS, 5 I.C., 6 OUTC, 7 OUTF, 8 I.C.

## MAX7219
designator U?
footprint DIP24
pins: 1 DIN, 2 DIG0, 3 DIG4, 4 GND, 5 DIG6, 6 DIG2, 7 DIG3, 8 DIG7, 9 GND, 10 DIG5, 11 DIG1, 12 ~{CS}, 13 CLK, 14 SEGA, 15 SEGF, 16 SEGB, 17 SEGG, 18 ISET, 19 V+, 20 SEGC, 21 SEGE, 22 SEGDP, 23 SEGD, 24 DOUT

## MAX30102
designator U?
footprint MMSOP-14
pins: 1 NC, 2 SCL, 3 SDA, 4 PGND, 5 RDRV, 6 IRDRV, 7 NC, 8 NC, 9 VLED+, 10 VLED+, 11 VDD, 12 GND, 13 ~{INT}, 14 NC

## MC20
designator U?
footprint MC20
part A pins: 1 MICP, 2 MICN, 3 SPKP, 4 SPKN, 5 PWRKEY, 6 ADC, 7 SD_CMD, 8 SD_CLK, 9 SD_DATA, 10 SIM2_CLK, 11 SIM2_DATA, 12 SIM2_RST, 13 SIM2_VDD, 14 GND, 15 GNSS_ANT, 16 SIM_GND, 17 RESERVED, 18 SIM1_VDD, 19 SIM1_CLK, 20 SIM1_RST, 21 SIM1_DATA, 22 GNSS_TXD, 23 GNSS_RXD, 24 RXD_AUX, 25 TXD_AUX, 26 GNSS_VCC, 27 GND, 28 GNSS_VCC_EN, 29 DBG_TXD, 30 DBG_RXD, 31 GND, 32 BT_ANT, 33 RXD, 34 TXD, 35 RI, 36 DCD, 37 DTR, 38 CTS, 39 RTS, 40 GND, 41 RF_ANT, 42 GND, 43 VDD_EXT, 44 GND, 45 GND, 46 RESERVED, 47 NETLIGHT, 48 GND, 49 GND, 50 VBAT, 51 VBAT, 52 VRTC, 53 LOUDSPKN, 54 LOUDSPKP
part B pins: 55 RESERVED, 56 RESERVED, 57 RESERVED, 58 RESERVED, 59 PCM_CLK, 60 PCM_OUT, 61 PCM_SYNC, 62 PCM_IN, 63 RESERVED, 64 RESERVED, 65 RESERVED, 66 RESERVED, 67 RESERVED, 68 RESERVED

## MC78L05ABD
designator U?
footprint SO-8
pins: 1 VOUT, 2 GND, 3 GND, 4 NC, 5 NC, 6 GND, 7 GND, 8 VIN

## MC1413
designator U?
footprint SO-16
pins: 1 I1 (in), 2 I2 (in), 3 I3 (in), 4 I4 (in), 5 I5 (in), 6 I6 (in), 7 I7 (in), 8 GND, 9 COM, 10 O7 (oc), 11 O6 (oc), 12 O5 (oc), 13 O4 (oc), 14 O3 (oc), 15 O2 (oc), 16 O1 (oc)

## MC1648
designator U?
footprint SOP8
pins: 1 TANK, 2 VCC, 3 VCC, 4 OUT, 5 AGC, 6 GND, 7 GND, 8 BIAS

## MC7805CDTRKG
designator U?
footprint TO-252-2(DPAK)
pins: 1 VIN, 2 GND, 3 OUT

## MC12017
designator U?
footprint SO-8
pins: 1 CONTROL, 2 ACPLLUP, 3 OUTPUT, 4 GND, 5 SINPUT+, 6 SINPUT-, 7 VREG, 8 VCC

## MCP6001
designator U?
footprint SOT23-5
pins: 1 OUT, 2 VSS, 3 VIN+, 4 VIN-, 5 VDD

## MG301
designator U?
footprint MG301
pins: 1 GND, 2 GND, 3 GND, 4 RF_ANT, 5 GND, 6 GND, 7 VPA, 8 VPA, 9 GND, 10 WAKEUP_IN, 11 LED_STATUS, 12 RESERVED, 13 SLEEP_STATUS, 14 RESERVED, 15 RESERVED, 16 RESERVED, 17 NC, 18 RESERVED, 19 RESERVED, 20 VIO, 21 VBAT, 22 VBAT, 23 GND, 24 UART1_DCD, 25 UART1_RING, 26 UART1_DSR, 27 UART1_DTR, 28 UART1_TD, 29 UART1_RD, 30 UART1_CTS, 31 UART1_RTS, 32 GND, 33 EXTEAR_N, 34 EXTEAR_P, 35 INTMIC_P, 36 INTMIC_N, 37 INTEAR_N, 38 INTEAR_P, 39 EXTMIC_P, 40 EXTMIC_N, 41 GND, 42 RESERVED, 43 GND, 44 RESERVED, 45 GND, 46 UART0_RD, 47 UART0_TD, 48 USB_D+, 49 USB_D-, 50 RESERVED, 51 RESERVED, 52 RESERVED, 53 RESERVED, 54 GND, 55 SM_CLK, 56 SM_DATA, 57 SM_RST, 58 VSIM, 59 RESERVED, 60 GND, 61 RESERVED, 62 RESERVED, 63 RESERVED, 64 WAKEUP_OUT, 65 GND, 66 RESERVED, 67 RESET, 68 TERM_ON
text: GPRS

## MG2639
designator U?
footprint GSM
pins: 1 GND, 2 RF_ANT, 3 GND, 4 RING, 5 GND, 6 VBAT, 7 RSSI_LED, 8 RTS, 9 CTS, 10 DCD, 11 CARD_RST, 12 CARD_CLK, 13 CARD_DATA, 14 V_CARD, 15 RXD, 16 TXD, 17 SYSRST_N, 18 SPK_2P, 19 SPK_1P, 20 SPK_1N, 21 MIC_2P, 22 MIC_1P, 23 MIC_1N, 24 PWRKEY_N, 25 DTR, 26 DSR, 27 V_MSM, 28 GND

## MIC2951-3
designator U?, comment MIC2950-3
footprint SO-8
pins: 1 OUT, 2 SNS, 3 SHDN, 4 GND, 5 ~{ERR}, 6 TAP, 7 FB, 8 IN

## MPU6050
designator U?
footprint QFN (4x4x0.9) mm
pins: 1 CLKIN, 2 NC, 3 NC, 4 NC, 5 NC, 6 AUX_DA, 7 AUX_CL, 8 VLOGIC, 9 AD0, 10 REGOUT, 11 FSYNC, 12 INT, 13 VDD, 14 NC, 15 NC, 16 NC, 17 NC, 18 GND, 19 RESV, 20 CPOUT, 21 RESV, 22 RESV, 23 SCL, 24 SDA

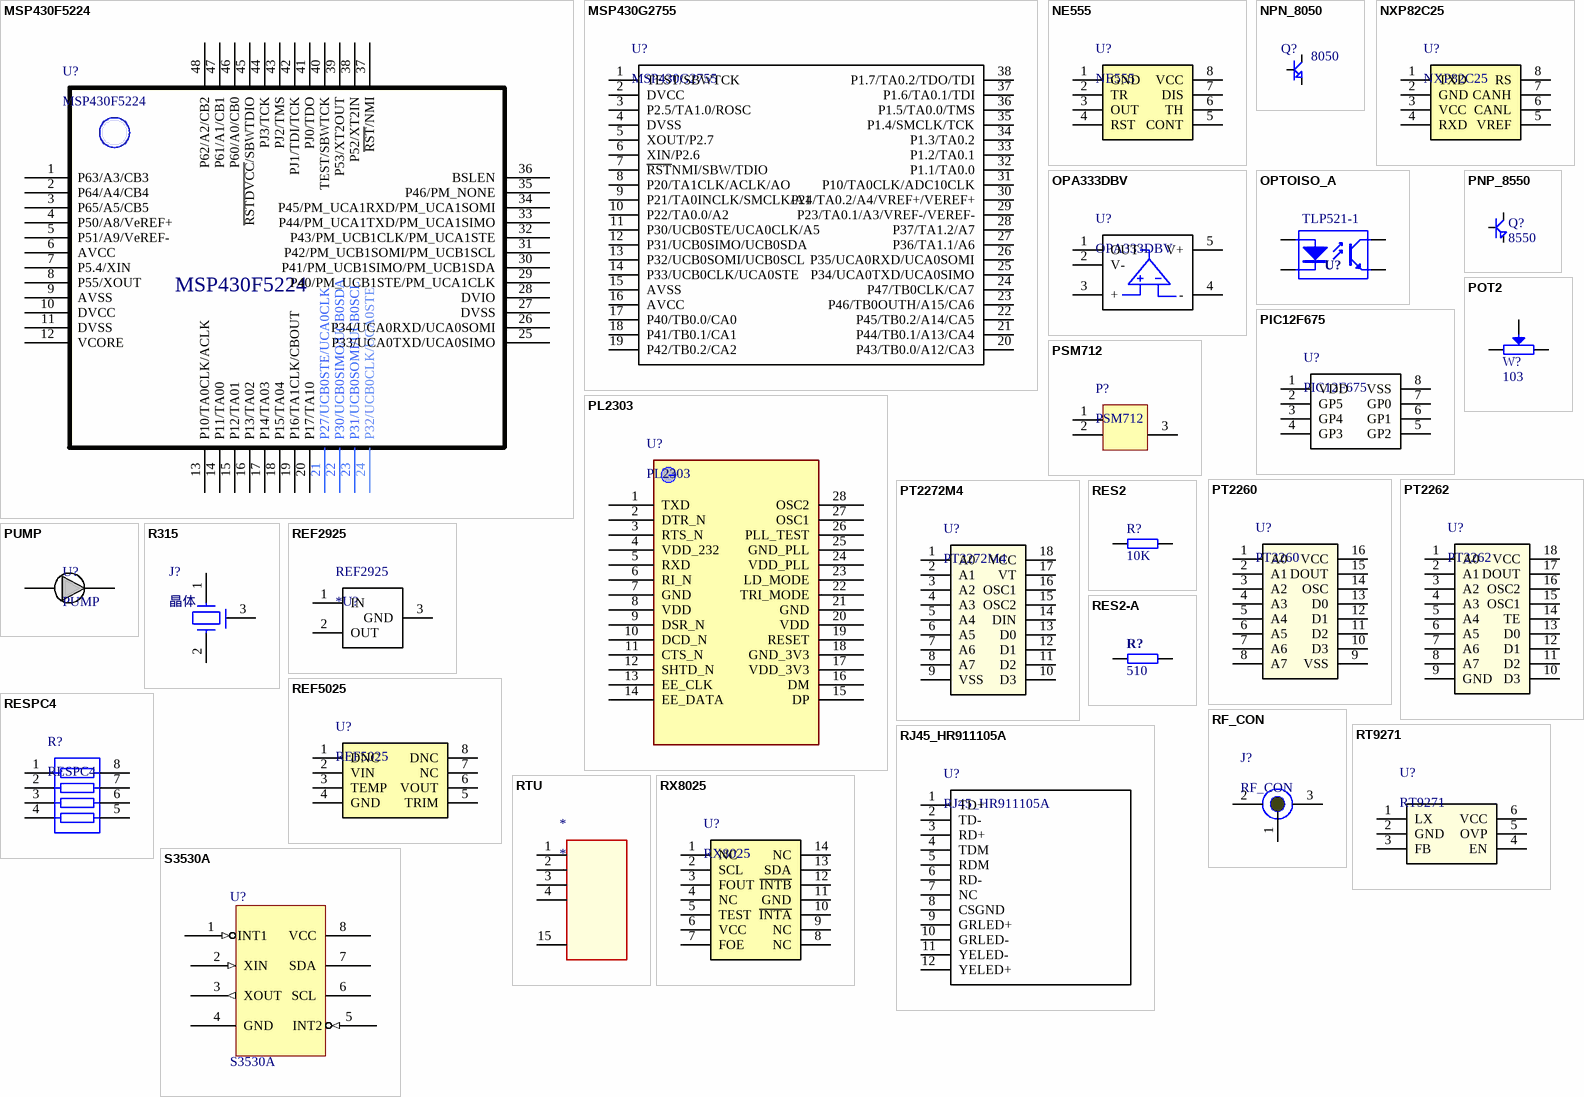
[diagram p5: symbols MSP430F5224 to S3530A]

## MSP430F5224
designator U?
footprint QFN48
footprint Model Name (Footprint not found)
pins: 1 P63/A3/CB3, 2 P64/A4/CB4, 3 P65/A5/CB5, 4 P50/A8/VeREF+, 5 P51/A9/VeREF-, 6 AVCC, 7 P5.4/XIN, 8 P55/XOUT, 9 AVSS, 10 DVCC, 11 DVSS, 12 VCORE, 13 P10/TA0CLK/ACLK, 14 P11/TA00, 15 P12/TA01, 16 P13/TA02, 17 P14/TA03, 18 P15/TA04, 19 P16/TA1CLK/CBOUT, 20 P17/TA10, 21 P27/UCB0STE/UCA0CLK, 22 P30/UCB0SIMO/UCB0SDA, 23 P31/UCB0SOMI/UCB0SCL, 24 P32/UCB0CLK/UCA0STE, 25 P33/UCA0TXD/UCA0SIMO, 26 P34/UCA0RXD/UCA0SOMI, 27 DVSS, 28 DVIO, 29 P40/PM_UCB1STE/PM_UCA1CLK, 30 P41/PM_UCB1SIMO/PM_UCB1SDA, 31 P42/PM_UCB1SOMI/PM_UCB1SCL, 32 P43/PM_UCB1CLK/PM_UCA1STE, 33 P44/PM_UCA1TXD/PM_UCA1SIMO, 34 P45/PM_UCA1RXD/PM_UCA1SOMI, 35 P46/PM_NONE, 36 BSLEN, 37 ~{RST}/NMI, 38 P52/XT2IN, 39 P53/XT2OUT, 40 TEST/SBWTCK, 41 PJ0/TDO, 42 PJ1/TDI/TCK, 43 PJ2/TMS, 44 PJ3/TCK, 45 ~{RSTDVCC}/SBWTDIO, 46 P60/A0/CB0, 47 P61/A1/CB1, 48 P62/A2/CB2

## MSP430G2755
designator U?
footprint TSSOP38
pins: 1 TEST/SBWTCK, 2 DVCC, 3 P2.5/TA1.0/ROSC, 4 DVSS, 5 XOUT/P2.7, 6 XIN/P2.6, 7 ~{RST}NMI/SBW/TDIO, 8 P20/TA1CLK/ACLK/AO, 9 P21/TA0INCLK/SMCLK/A1, 10 P22/TA0.0/A2, 11 P30/UCB0STE/UCA0CLK/A5, 12 P31/UCB0SIMO/UCB0SDA, 13 P32/UCB0SOMI/UCB0SCL, 14 P33/UCB0CLK/UCA0STE, 15 AVSS, 16 AVCC, 17 P40/TB0.0/CA0, 18 P41/TB0.1/CA1, 19 P42/TB0.2/CA2, 20 P43/TB0.0/A12/CA3, 21 P44/TB0.1/A13/CA4, 22 P45/TB0.2/A14/CA5, 23 P46/TB0OUTH/A15/CA6, 24 P47/TB0CLK/CA7, 25 P34/UCA0TXD/UCA0SIMO, 26 P35/UCA0RXD/UCA0SOMI, 27 P36/TA1.1/A6, 28 P37/TA1.2/A7, 29 P23/TA0.1/A3/VREF-/VEREF-, 30 P24/TA0.2/A4/VREF+/VEREF+, 31 P10/TA0CLK/ADC10CLK, 32 P1.1/TA0.0, 33 P1.2/TA0.1, 34 P1.3/TA0.2, 35 P1.4/SMCLK/TCK, 36 P1.5/TA0.0/TMS, 37 P1.6/TA0.1/TDI, 38 P1.7/TA0.2/TDO/TDI

## NE555
designator U?
footprint SOP8
pins: 1 GND, 2 TR, 3 OUT, 4 RST, 5 CONT, 6 TH, 7 DIS, 8 VCC

## NPN_8050
designator Q?, comment 8050
footprint SOT-23_A
footprint SOT-89L
pins: 1 B (oc), 2 C, 3 E

## NXP82C25
designator U?
footprint SOIC8
pins: 1 TXD, 2 GND, 3 VCC, 4 RXD, 5 VREF, 6 CANL, 7 CANH, 8 RS

## OPA333DBV
designator U?
footprint SOT23-5
pins: 1 OUT, 2 V-, 3 +, 4 -, 5 V+

## OPTOISO_A
designator U?, comment TLP521-1
footprint DIP4
footprint SOP4
footprint SOP4S
pins: 1 A, 2 K, 3 E, 4 C

## PIC12F675
designator U?
footprint SO-8
pins: 1 VDD, 2 GP5, 3 GP4, 4 GP3, 5 GP2, 6 GP1, 7 GP0, 8 VSS

## PL2303
designator U?
footprint DW28
pins: 1 TXD, 2 DTR_N, 3 RTS_N, 4 VDD_232, 5 RXD, 6 RI_N, 7 GND, 8 VDD, 9 DSR_N, 10 DCD_N, 11 CTS_N, 12 SHTD_N, 13 EE_CLK, 14 EE_DATA, 15 DP, 16 DM, 17 VDD_3V3, 18 GND_3V3, 19 RESET, 20 VDD, 21 GND, 22 TRI_MODE, 23 LD_MODE, 24 VDD_PLL, 25 GND_PLL, 26 PLL_TEST, 27 OSC1, 28 OSC2

## PNP_8550
designator Q?, comment 8550
footprint SOT-23_A
pins: 1 B (in), 2 C, 3 E

## POT2
designator W?, comment 103
Potentiometer
footprint VR3296
pins: 1, 2, 3

## PSM712
designator P?
footprint SOT-23
pins: 1, 2, 3

## PT2260
designator U?
footprint SO-16
pins: 1 A0, 2 A1, 3 A2, 4 A3, 5 A4, 6 A5, 7 A6, 8 A7, 9 VSS, 10 D3, 11 D2, 12 D1, 13 D0, 14 OSC, 15 DOUT, 16 VCC

## PT2262
designator U?
footprint DIP18
pins: 1 A0, 2 A1, 3 A2, 4 A3, 5 A4, 6 A5, 7 A6, 8 A7, 9 GND, 10 D3, 11 D2, 12 D1, 13 D0, 14 TE, 15 OSC1, 16 OSC2, 17 DOUT, 18 VCC

## PT2272M4
designator U?
footprint DIP18
pins: 1 A0, 2 A1, 3 A2, 4 A3, 5 A4, 6 A5, 7 A6, 8 A7, 9 VSS, 10 D3, 11 D2, 12 D1, 13 D0, 14 DIN, 15 OSC2, 16 OSC1, 17 VT, 18 VCC

## PUMP
designator U?
pins: 1, 2

## R315
designator J?, comment 晶体
footprint R315
pins: 1, 2, 3

## REF2925
designator REF2925, comment *U?
footprint SOT-23
pins: 1 IN, 2 OUT, 3 GND

## REF5025
designator U?
footprint SO-8
pins: 1 DNC, 2 VIN, 3 TEMP, 4 GND, 5 TRIM, 6 VOUT, 7 NC, 8 DNC

## RES2
designator R?, comment 10K
footprint 0805
footprint 0805-1
footprint 1812
footprint 2512
footprint 480100
footprint 2307
footprint R0603
footprint R0402
footprint R1206
footprint R0805
pins: 1, 2

## RES2-A
designator R?, comment 510
footprint 0805
footprint 2512
footprint 0402
pins: 1, 2

## RESPC4
designator R?
footprint RA0603-4
pins: 1, 2, 3, 4, 5, 6, 7, 8

## RF_CON
designator J?
footprint RF_CON
pins: 1, 2, 3

## RJ45_HR911105A
designator U?
footprint RJ45_HR
pins: 1 TD+, 2 TD-, 3 RD+, 4 TDM, 5 RDM, 6 RD-, 7 NC, 8 CSGND, 9 GRLED+, 10 GRLED-, 11 YELED-, 12 YELED+

## RT9271
designator U?
footprint SOT-23-6
footprint SOT-23-6
pins: 1 LX, 2 GND, 3 FB, 4 EN, 5 OVP, 6 VCC

## RTU
designator *
pins: 1, 2, 3, 4, 15

## RX8025
designator U?
footprint SOP14 (SOP, 14-Leads, Body 10.3x5.0mm (max), Pitch 1.27mm, IPC Medium Density)
footprint SOP-14
pins: 1 NC, 2 SCL, 3 FOUT, 4 NC, 5 TEST, 6 VCC, 7 FOE, 8 NC, 9 NC, 10 ~{INTA}, 11 GND, 12 ~{INTB}, 13 SDA, 14 NC

## S3530A
designator U?
footprint MICRO8
pins: 1 INT1 (in), 2 XIN (in), 3 XOUT (out), 4 GND (power), 5 INT2 (in), 6 SCL, 7 SDA, 8 VCC (power)

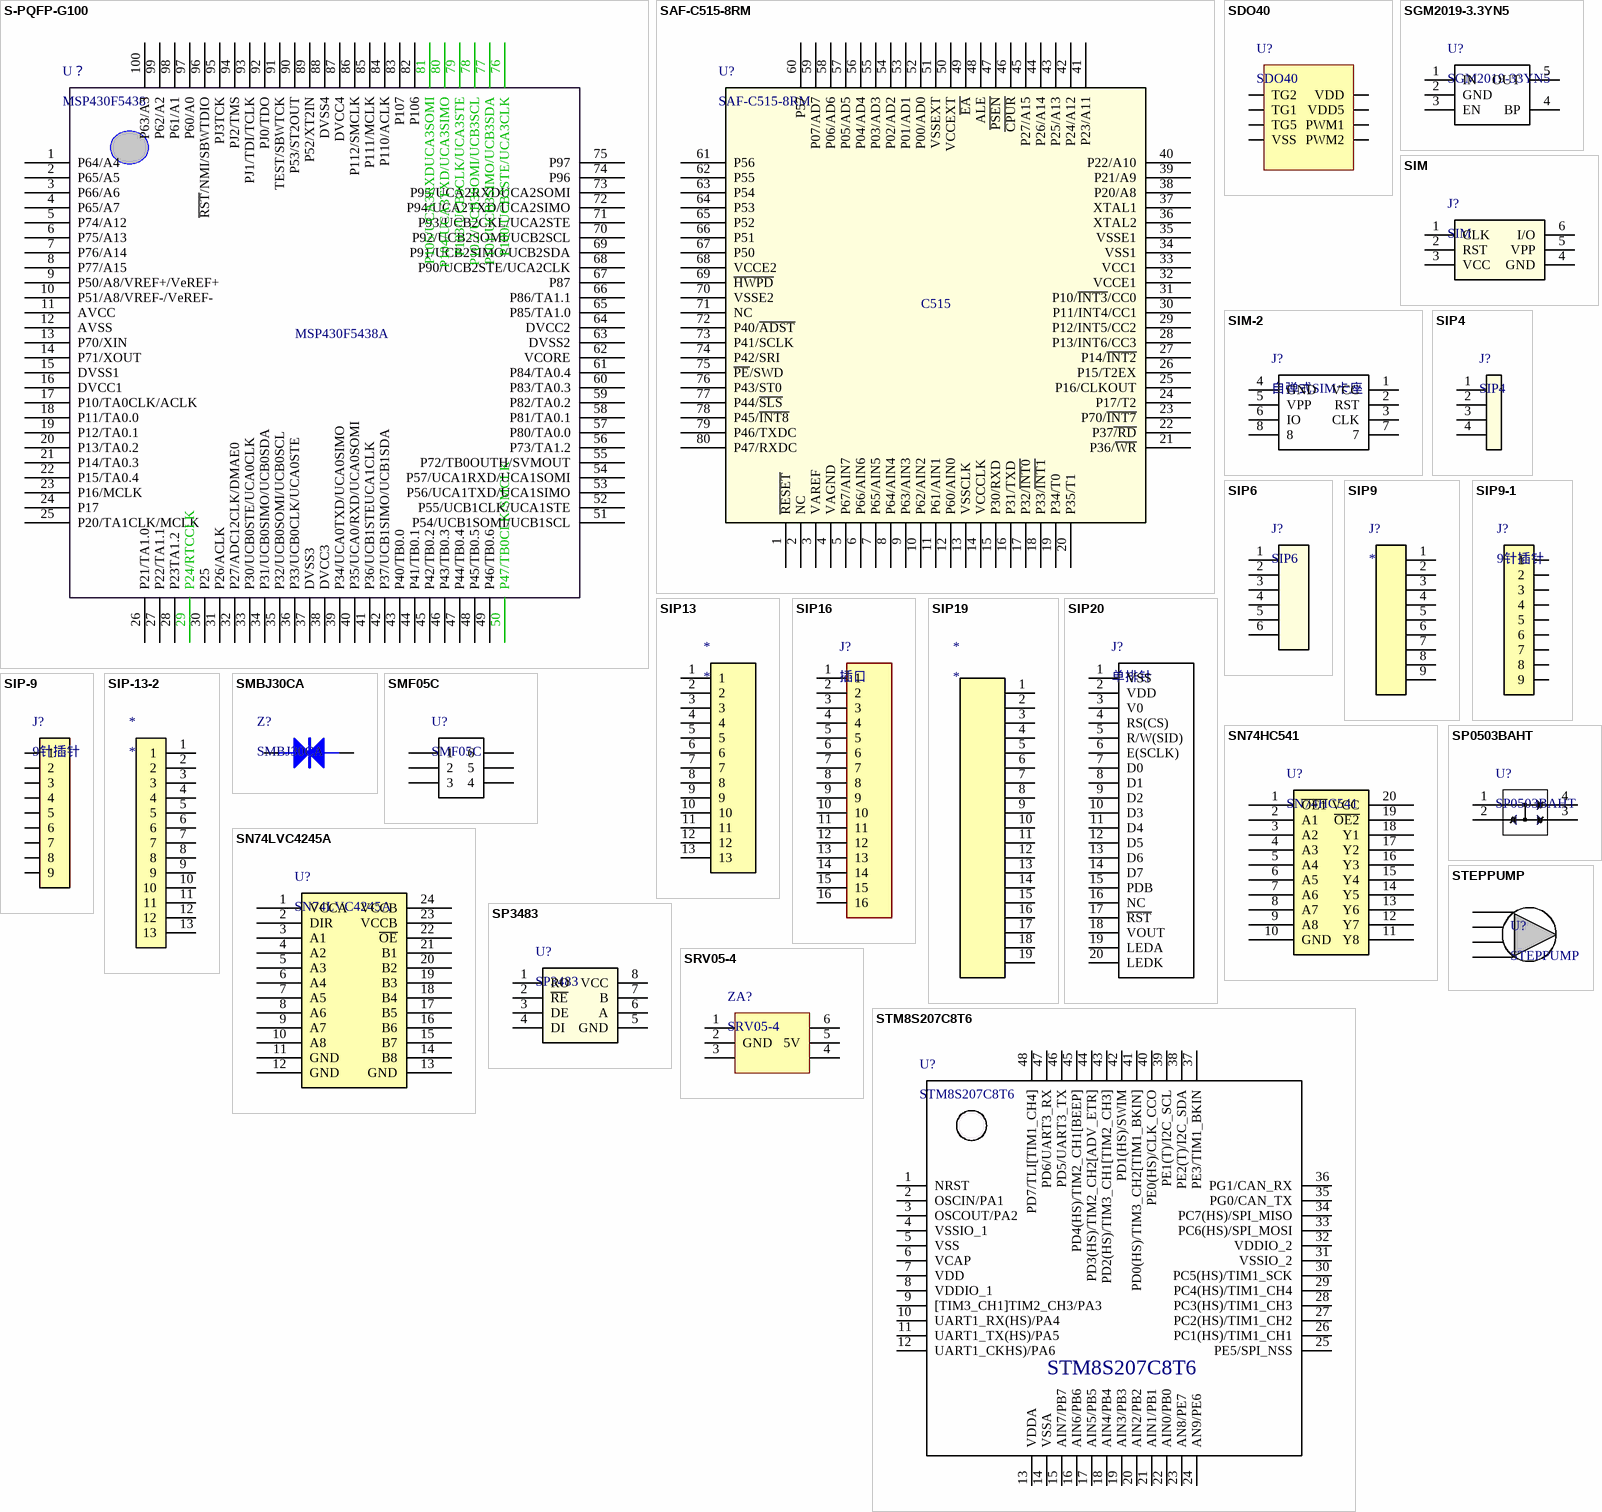
[diagram p6: symbols S-PQFP-G100 to STM8S207C8T6]

## S-PQFP-G100
designator U？, comment MSP430F5438
footprint Quad100
footprint Quad100 -2
footprint S-PQFP-100
pins: 1 P64/A4, 2 P65/A5, 3 P66/A6, 4 P65/A7, 5 P74/A12, 6 P75/A13, 7 P76/A14, 8 P77/A15, 9 P50/A8/VREF+/VeREF+, 10 P51/A8/VREF-/VeREF-, 11 AVCC (power), 12 AVSS (power), 13 P70/XIN, 14 P71/XOUT, 15 DVSS1 (power), 16 DVCC1 (power), 17 P10/TA0CLK/ACLK, 18 P11/TA0.0, 19 P12/TA0.1, 20 P13/TA0.2, 21 P14/TA0.3, 22 P15/TA0.4, 23 P16/MCLK, 24 P17, 25 P20/TA1CLK/MCLK, 26 P21/TA1.0, 27 P22/TA1.1, 28 P23TA1.2, 29 P24/RTCCLK, 30 P25, 31 P26/ACLK, 32 P27/ADC12CLK/DMAE0, 33 P30/UCB0STE/UCA0CLK, 34 P31/UCB0SIMO/UCB0SDA, 35 P32/UCB0SOMI/UCB0SCL, 36 P33/UCB0CLK/UCA0STE, 37 DVSS3, 38 DVCC3, 39 P34/UCA0TXD/UCA0SIMO, 40 P35/UCA0/RXD/UCA0SOMI, 41 P36/UCB1STEUCA1CLK, 42 P37/UCB1SIMO/UCB1SDA, 43 P40/TB0.0, 44 P41/TB0.1, 45 P42/TB0.2, 46 P43/TB0.3, 47 P44/TB0.4, 48 P45/TB0.5, 49 P46/TB0.6, 50 P47/TB0CLK/SMCLK, 51 P54/UCB1SOMI/UCB1SCL, 52 P55/UCB1CLK/UCA1STE, 53 P56/UCA1TXD/UCA1SIMO, 54 P57/UCA1RXD/UCA1SOMI, 55 P72/TB0OUTH/SVMOUT, 56 P73/TA1.2, 57 P80/TA0.0, 58 P81/TA0.1, 59 P82/TA0.2, 60 P83/TA0.3, 61 P84/TA0.4, 62 VCORE, 63 DVSS2, 64 DVCC2, 65 P85/TA1.0, 66 P86/TA1.1, 67 P87, 68 P90/UCB2STE/UCA2CLK, 69 P91/UCB2SIMO/UCB2SDA, 70 P92/UCB2SOMI/UCB2SCL, 71 P93/UCB2CKL/UCA2STE, 72 P94/UCA2TXD/UCA2SIMO, 73 P95/UCA2RXDUCA2SOMI, 74 P96, 75 P97, 76 P100/UCB3STE/UCA3CLK, 77 P101/UCB3SIMO/UCB3SDA, 78 P10.2/UCB3SOMI/UCB3SCL, 79 P103/UCB3CLK/UCA3STE, 80 P104/UCA3TXD/UCA3SIMO, 81 P105/UCA3RXDUCA3SOMI, 82 P106, 83 P107, 84 P110/ACLK, 85 P111/MCLK, 86 P112/SMCLK, 87 DVCC4, 88 DVSS4, 89 P52/XT2IN, 90 P53/ST2OUT, 91 TEST/SBWTCK, 92 PJ0/TDO, 93 PJ1/TDI/TCLK, 94 PJ2/TMS, 95 PJ3TCK, 96 ~{RST}/NMI/SBWTDIO, 97 P60/A0, 98 P61/A1, 99 P62/A2, 100 P63/A3
text: MSP430F5438A

## SAF-C515-8RM
designator U?
pins: 1 ~{RESET}, 2 NC, 3 VAREF, 4 VAGND, 5 P67/AIN7, 6 P66/AIN6, 7 P65/AIN5, 8 P64/AIN4, 9 P63/AIN3, 10 P62/AIN2, 11 P61/AIN1, 12 P60/AIN0, 13 VSSCLK, 14 VCCCLK, 15 P30/RXD, 16 P31/TXD, 17 P32/~{INT0}, 18 P33/~{INT1}, 19 P34/T0, 20 P35/T1, 21 P36/~{WR}, 22 P37~{/RD}, 23 P70/~{INT7}, 24 P17/T2, 25 P16/CLKOUT, 26 P15/T2EX, 27 P14/~{INT2}, 28 P13/INT6/CC3, 29 P12/INT5/CC2, 30 P11/INT4/CC1, 31 P10/~{INT3}/CC0, 32 VCCE1, 33 VCC1, 34 VSS1, 35 VSSE1, 36 XTAL2, 37 XTAL1, 38 P20/A8, 39 P21/A9, 40 P22/A10, 41 P23/A11, 42 P24/A12, 43 P25/A13, 44 P26/A14, 45 P27/A15, 46 ~{CPUR}, 47 ~{PSEN}, 48 ALE, 49 ~{EA}, 50 VCCEXT, 51 VSSEXT, 52 P00/AD0, 53 P01/AD1, 54 P02/AD2, 55 P03/AD3, 56 P04/AD4, 57 P05/AD5, 58 P06/AD6, 59 P07/AD7, 60 P57, 61 P56, 62 P55, 63 P54, 64 P53, 65 P52, 66 P51, 67 P50, 68 VCCE2, 69 ~{HWPD}, 70 VSSE2, 71 NC, 72 P40/~{ADST}, 73 P41/SCLK, 74 P42/SRI, 75 ~{PE}/SWD, 76 P43/ST0, 77 P44/~{SLS}, 78 P45/~{INT8}, 79 P46/TXDC, 80 P47/RXDC
text: C515

## SDO40
designator U?
footprint DIP8-1
pins: 1 TG2, 2 TG1, 3 TG5, 4 VSS, 5 PWM2, 6 PWM1, 7 VDD5, 8 VDD

## SGM2019-3.3YN5
designator U?, comment SGM2019-33YN5
footprint SOT23-5
pins: 1 IN, 2 GND, 3 EN, 4 BP, 5 OUT

## SIM
designator J?
footprint SIM
footprint SIM-2
pins: 1 CLK, 2 RST, 3 VCC, 4 GND, 5 VPP, 6 I/O

## SIM-2
designator J?, comment 自弹式SIM卡座
footprint SIM-2
pins: 1 VCC, 2 RST, 3 CLK, 4 GND, 5 VPP, 6 IO, 7, 8

## SIP4
designator J?
footprint SIP4
pins: 1, 2, 3, 4

## SIP6
designator J?
footprint SIP6
footprint SIP6-1
pins: 1, 2, 3, 4, 5, 6

## SIP9
designator J?
footprint SIP9 - duplicate
pins: 1, 2, 3, 4, 5, 6, 7, 8, 9

## SIP9-1
designator J?, comment 9针插针
footprint SIP9
pins: 1, 2, 3, 4, 5, 6, 7, 8, 9

## SIP13
designator *
footprint SIP-13
pins: 1, 2, 3, 4, 5, 6, 7, 8, 9, 10, 11, 12, 13

## SIP16
designator J?, comment 插口
pins: 1, 2, 3, 4, 5, 6, 7, 8, 9, 10, 11, 12, 13, 14, 15, 16

## SIP19
designator *
pins: 1, 2, 3, 4, 5, 6, 7, 8, 9, 10, 11, 12, 13, 14, 15, 16, 17, 18, 19

## SIP20
designator J?, comment 单排针
footprint SIP20 - 1
pins: 1 VSS, 2 VDD, 3 V0, 4 RS(CS), 5 R/W(SID), 6 E(SCLK), 7 D0, 8 D1, 9 D2, 10 D3, 11 D4, 12 D5, 13 D6, 14 D7, 15 PDB, 16 NC, 17 ~{RST}, 18 VOUT, 19 LEDA, 20 LEDK

## SIP-9
designator J?, comment 9针插针
footprint SIP9
footprint SIP9 - duplicate
pins: 1, 2, 3, 4, 5, 6, 7, 8, 9

## SIP-13-2
designator *
footprint SIP-13
pins: 1, 2, 3, 4, 5, 6, 7, 8, 9, 10, 11, 12, 13

## SMBJ30CA
designator Z?
footprint SMBJ
pins: 1 A, 2 K

## SMF05C
designator U?
footprint SC70-6L
pins: 1, 2, 3, 4, 5, 6

## SN74HC541
designator U?
footprint TSSOP20
pins: 1 ~{OE1}, 2 A1, 3 A2, 4 A3, 5 A4, 6 A5, 7 A6, 8 A7, 9 A8, 10 GND, 11 Y8, 12 Y7, 13 Y6, 14 Y5, 15 Y4, 16 Y3, 17 Y2, 18 Y1, 19 ~{OE2}, 20 VCC

## SN74LVC4245A
designator U?
footprint TSS0P24
pins: 1 VCCA, 2 DIR, 3 A1, 4 A2, 5 A3, 6 A4, 7 A5, 8 A6, 9 A7, 10 A8, 11 GND, 12 GND, 13 GND, 14 B8, 15 B7, 16 B6, 17 B5, 18 B4, 19 B3, 20 B2, 21 B1, 22 ~{OE}, 23 VCCB, 24 VCCB

## SP0503BAHT
designator U?
footprint SOT143
pins: 1, 2, 3, 4

## SP3483
designator U?
footprint SO-8
footprint DIP8-2
pins: 1 RO, 2 ~{RE}, 3 DE, 4 DI, 5 GND, 6 A, 7 B, 8 VCC

## SRV05-4
designator ZA?
footprint SOT23-6L
pins: 1, 2 GND, 3, 4, 5 5V, 6

## STEPPUMP
designator U?
pins: 1, 2, 3, 4

## STM8S207C8T6
designator U?
footprint LQFP48_7X7X05P
pins: 1 NRST, 2 OSCIN/PA1, 3 OSCOUT/PA2, 4 VSSIO_1, 5 VSS, 6 VCAP, 7 VDD, 8 VDDIO_1, 9 [TIM3_CH1]TIM2_CH3/PA3, 10 UART1_RX(HS)/PA4, 11 UART1_TX(HS)/PA5, 12 UART1_CKHS)/PA6, 13 VDDA, 14 VSSA, 15 AIN7/PB7, 16 AIN6/PB6, 17 AIN5/PB5, 18 AIN4/PB4, 19 AIN3/PB3, 20 AIN2/PB2, 21 AIN1/PB1, 22 AIN0/PB0, 23 AN8/PE7, 24 AN9/PE6, 25 PE5/SPI_NSS, 26 PC1(HS)/TIM1_CH1, 27 PC2(HS)/TIM1_CH2, 28 PC3(HS)/TIM1_CH3, 29 PC4(HS)/TIM1_CH4, 30 PC5(HS)/TIM1_SCK, 31 VSSIO_2, 32 VDDIO_2, 33 PC6(HS)/SPI_MOSI, 34 PC7(HS)/SPI_MISO, 35 PG0/CAN_TX, 36 PG1/CAN_RX, 37 PE3/TIM1_BKIN, 38 PE2(T)/I2C_SDA, 39 PE1(T)/I2C_SCL, 40 PE0(HS)/CLK_CCO, 41 PD0(HS)/TIM3_CH2[TIM1_BKIN], 42 PD1(HS)/SWIM, 43 PD2(HS)/TIM3_CH1[TIM2_CH3], 44 PD3(HS)/TIM2_CH2[ADV_ETR], 45 PD4(HS)/TIM2_CH1[BEEP], 46 PD5/UART3_TX, 47 PD6/UART3_RX, 48 PD7/TLI[TIM1_CH4]

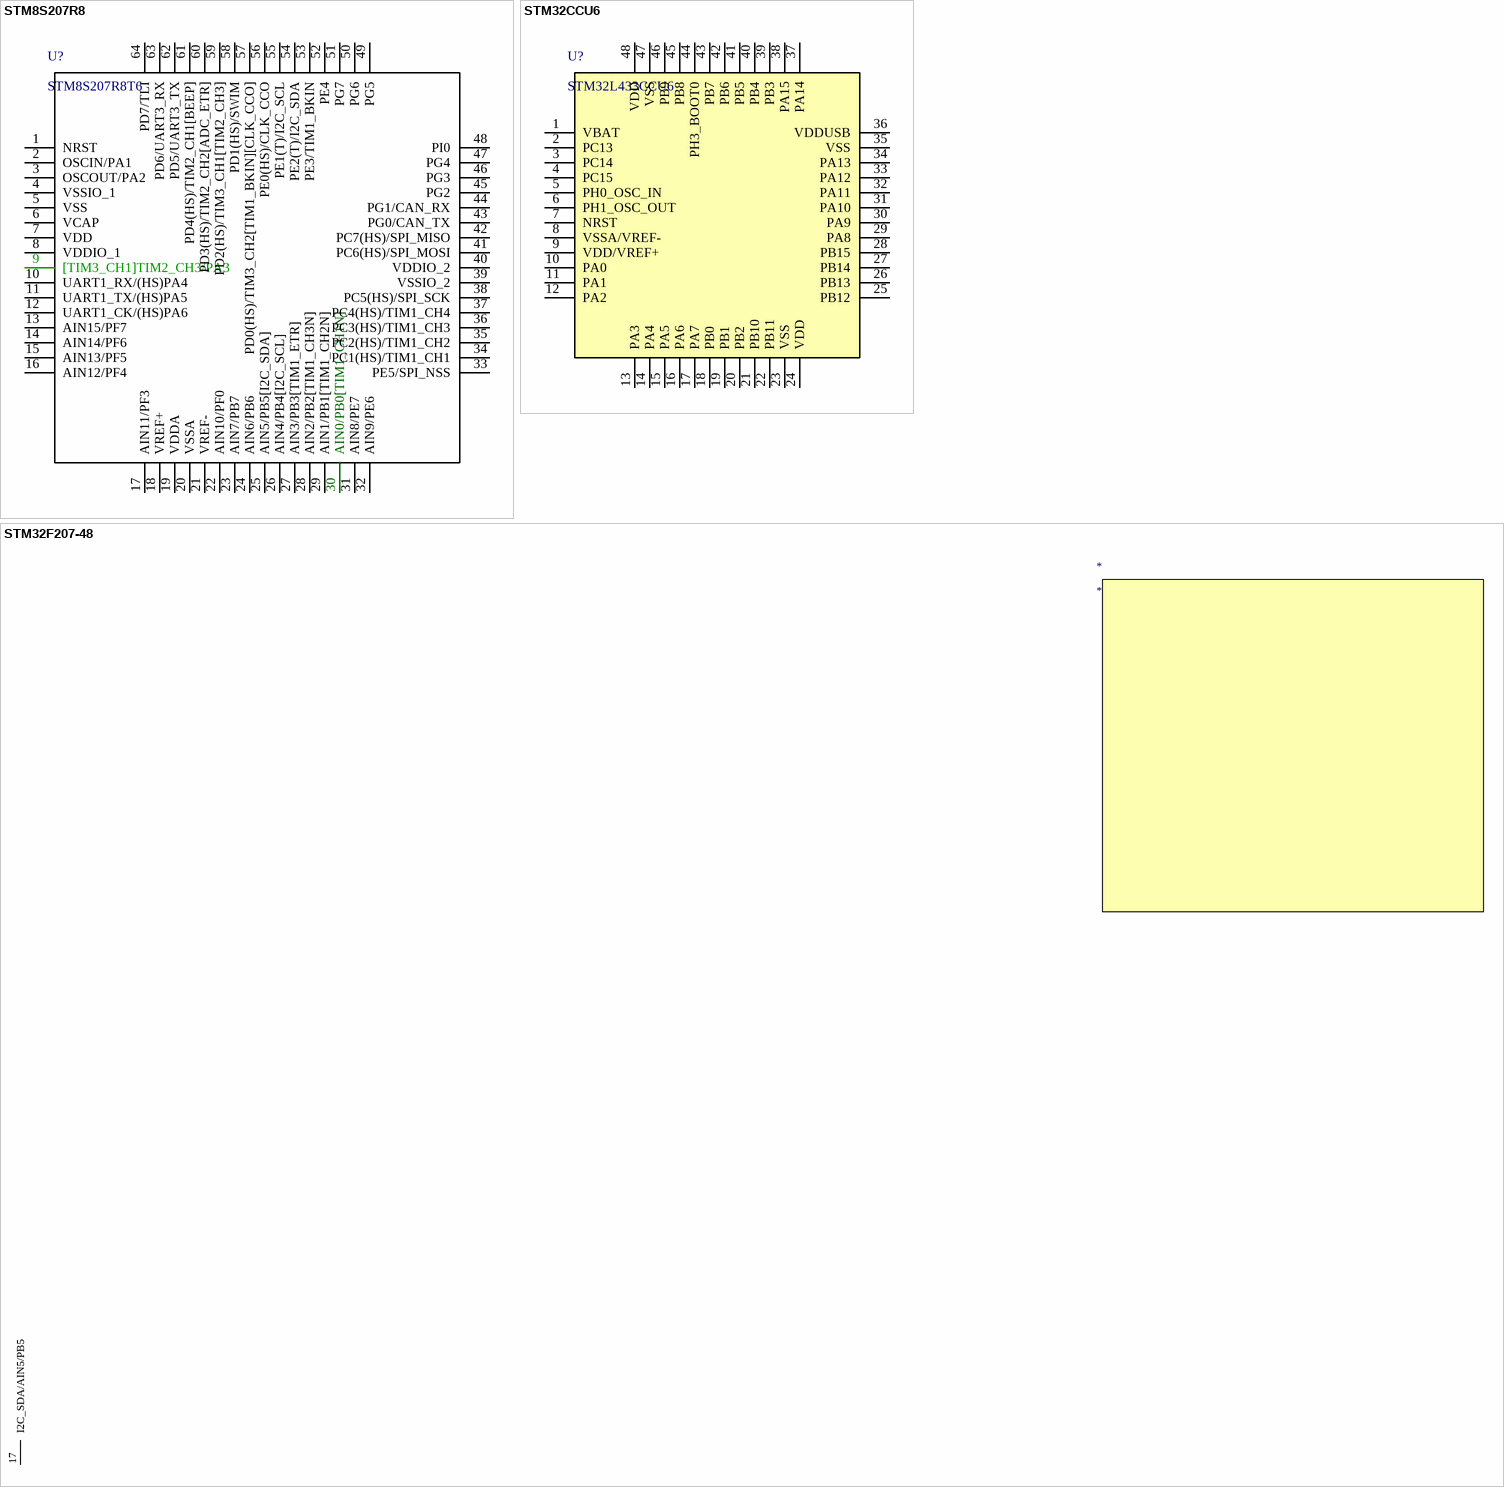
[diagram p7: symbols STM8S207R8 to STM32F207-48]

## STM8S207R8
designator U?, comment STM8S207R8T6
footprint LQFP64
pins: 1 NRST, 2 OSCIN/PA1, 3 OSCOUT/PA2, 4 VSSIO_1, 5 VSS, 6 VCAP, 7 VDD, 8 VDDIO_1, 9 [TIM3_CH1]TIM2_CH3/PA3, 10 UART1_RX/(HS)PA4, 11 UART1_TX/(HS)PA5, 12 UART1_CK/(HS)PA6, 13 AIN15/PF7, 14 AIN14/PF6, 15 AIN13/PF5, 16 AIN12/PF4, 17 AIN11/PF3, 18 VREF+, 19 VDDA, 20 VSSA, 21 VREF-, 22 AIN10/PF0, 23 AIN7/PB7, 24 AIN6/PB6, 25 AIN5/PB5[I2C_SDA], 26 AIN4/PB4[I2C_SCL], 27 AIN3/PB3[TIM1_ETR], 28 AIN2/PB2[TIM1_CH3N], 29 AIN1/PB1[TIM1_CH2N], 30 AIN0/PB0[TIM1_CH1N], 31 AIN8/PE7, 32 AIN9/PE6, 33 PE5/SPI_NSS, 34 PC1(HS)/TIM1_CH1, 35 PC2(HS)/TIM1_CH2, 36 PC3(HS)/TIM1_CH3, 37 PC4(HS)/TIM1_CH4, 38 PC5(HS)/SPI_SCK, 39 VSSIO_2, 40 VDDIO_2, 41 PC6(HS)/SPI_MOSI, 42 PC7(HS)/SPI_MISO, 43 PG0/CAN_TX, 44 PG1/CAN_RX, 45 PG2, 46 PG3, 47 PG4, 48 PI0, 49 PG5, 50 PG6, 51 PG7, 52 PE4, 53 PE3/TIM1_BKIN, 54 PE2(T)/I2C_SDA, 55 PE1(T)/I2C_SCL, 56 PE0(HS)/CLK_CCO, 57 PD0(HS)/TIM3_CH2[TIM1_BKIN][CLK_CCO], 58 PD1(HS)/SWIM, 59 PD2(HS)/TIM3_CH1[TIM2_CH3], 60 PD3(HS)/TIM2_CH2[ADC_ETR], 61 PD4(HS)/TIM2_CH1[BEEP], 62 PD5/UART3_TX, 63 PD6/UART3_RX, 64 PD7/TLI

## STM32CCU6
designator U?, comment STM32L433CCU6
footprint UFQFN48
pins: 1 VBAT, 2 PC13, 3 PC14, 4 PC15, 5 PH0_OSC_IN, 6 PH1_OSC_OUT, 7 NRST, 8 VSSA/VREF-, 9 VDD/VREF+, 10 PA0, 11 PA1, 12 PA2, 13 PA3, 14 PA4, 15 PA5, 16 PA6, 17 PA7, 18 PB0, 19 PB1, 20 PB2, 21 PB10, 22 PB11, 23 VSS, 24 VDD, 25 PB12, 26 PB13, 27 PB14, 28 PB15, 29 PA8, 30 PA9, 31 PA10, 32 PA11, 33 PA12, 34 PA13, 35 VSS, 36 VDDUSB, 37 PA14, 38 PA15, 39 PB3, 40 PB4, 41 PB5, 42 PB6, 43 PB7, 44 PH3_BOOT0, 45 PB8, 46 PB9, 47 VSS, 48 VDD

## STM32F207-48
designator *
pins: 17 I2C_SDA/AIN5/PB5

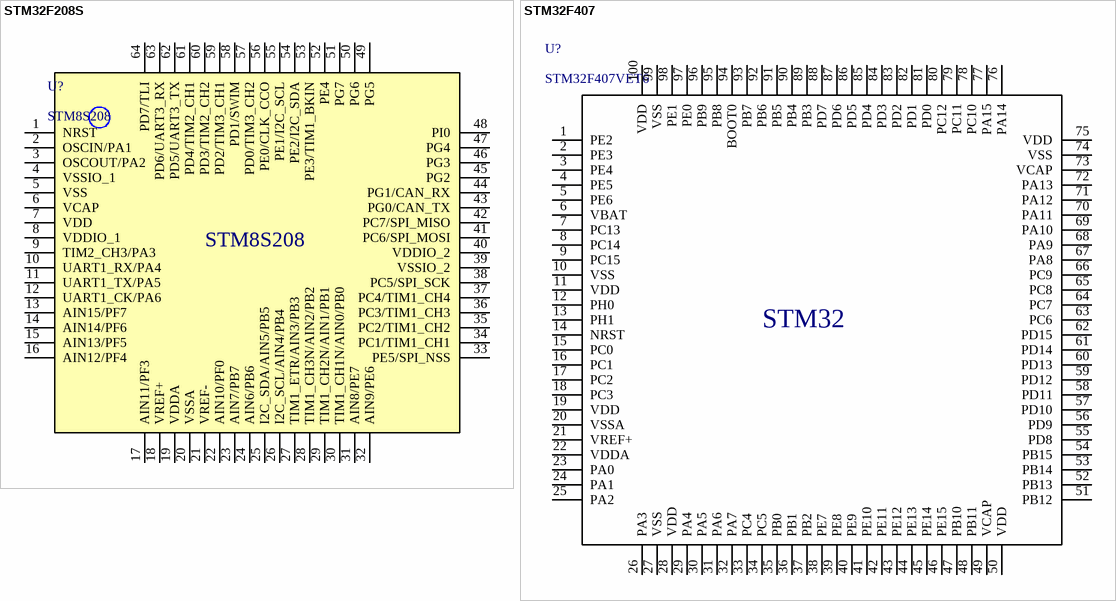
[diagram p8: symbols STM32F208S to STM32F407]

## STM32F208S
designator U?, comment STM8S208
footprint QFP-G64
pins: 1 NRST, 2 OSCIN/PA1, 3 OSCOUT/PA2, 4 VSSIO_1, 5 VSS, 6 VCAP, 7 VDD, 8 VDDIO_1, 9 TIM2_CH3/PA3, 10 UART1_RX/PA4, 11 UART1_TX/PA5, 12 UART1_CK/PA6, 13 AIN15/PF7, 14 AIN14/PF6, 15 AIN13/PF5, 16 AIN12/PF4, 17 AIN11/PF3, 18 VREF+, 19 VDDA, 20 VSSA, 21 VREF-, 22 AIN10/PF0, 23 AIN7/PB7, 24 AIN6/PB6, 25 I2C_SDA/AIN5/PB5, 26 I2C_SCL/AIN4/PB4, 27 TIM1_ETR/AIN3/PB3, 28 TIM1_CH3N/AIN2/PB2, 29 TIM1_CH2N/AIN1/PB1, 30 TIM1_CH1N/AIN0/PB0, 31 AIN8/PE7, 32 AIN9/PE6, 33 PE5/SPI_NSS, 34 PC1/TIM1_CH1, 35 PC2/TIM1_CH2, 36 PC3/TIM1_CH3, 37 PC4/TIM1_CH4, 38 PC5/SPI_SCK, 39 VSSIO_2, 40 VDDIO_2, 41 PC6/SPI_MOSI, 42 PC7/SPI_MISO, 43 PG0/CAN_TX, 44 PG1/CAN_RX, 45 PG2, 46 PG3, 47 PG4, 48 PI0, 49 PG5, 50 PG6, 51 PG7, 52 PE4, 53 PE3/TIM1_BKIN, 54 PE2/I2C_SDA, 55 PE1/I2C_SCL, 56 PE0/CLK_CCO, 57 PD0/TIM3_CH2, 58 PD1/SWIM, 59 PD2/TIM3_CH1, 60 PD3/TIM2_CH2, 61 PD4/TIM2_CH1, 62 PD5/UART3_TX, 63 PD6/UART3_RX, 64 PD7/TLI

## STM32F407
designator U?, comment STM32F407VET6
footprint LQFP100
pins: 1 PE2, 2 PE3, 3 PE4, 4 PE5, 5 PE6, 6 VBAT, 7 PC13, 8 PC14, 9 PC15, 10 VSS, 11 VDD, 12 PH0, 13 PH1, 14 NRST, 15 PC0, 16 PC1, 17 PC2, 18 PC3, 19 VDD, 20 VSSA, 21 VREF+, 22 VDDA, 23 PA0, 24 PA1, 25 PA2, 26 PA3, 27 VSS, 28 VDD, 29 PA4, 30 PA5, 31 PA6, 32 PA7, 33 PC4, 34 PC5, 35 PB0, 36 PB1, 37 PB2, 38 PE7, 39 PE8, 40 PE9, 41 PE10, 42 PE11, 43 PE12, 44 PE13, 45 PE14, 46 PE15, 47 PB10, 48 PB11, 49 VCAP, 50 VDD, 51 PB12, 52 PB13, 53 PB14, 54 PB15, 55 PD8, 56 PD9, 57 PD10, 58 PD11, 59 PD12, 60 PD13, 61 PD14, 62 PD15, 63 PC6, 64 PC7, 65 PC8, 66 PC9, 67 PA8, 68 PA9, 69 PA10, 70 PA11, 71 PA12, 72 PA13, 73 VCAP, 74 VSS, 75 VDD, 76 PA14, 77 PA15, 78 PC10, 79 PC11, 80 PC12, 81 PD0, 82 PD1, 83 PD2, 84 PD3, 85 PD4, 86 PD5, 87 PD6, 88 PD7, 89 PB3, 90 PB4, 91 PB5, 92 PB6, 93 PB7, 94 BOOT0, 95 PB8, 96 PB9, 97 PE0, 98 PE1, 99 VSS, 100 VDD
text: STM32

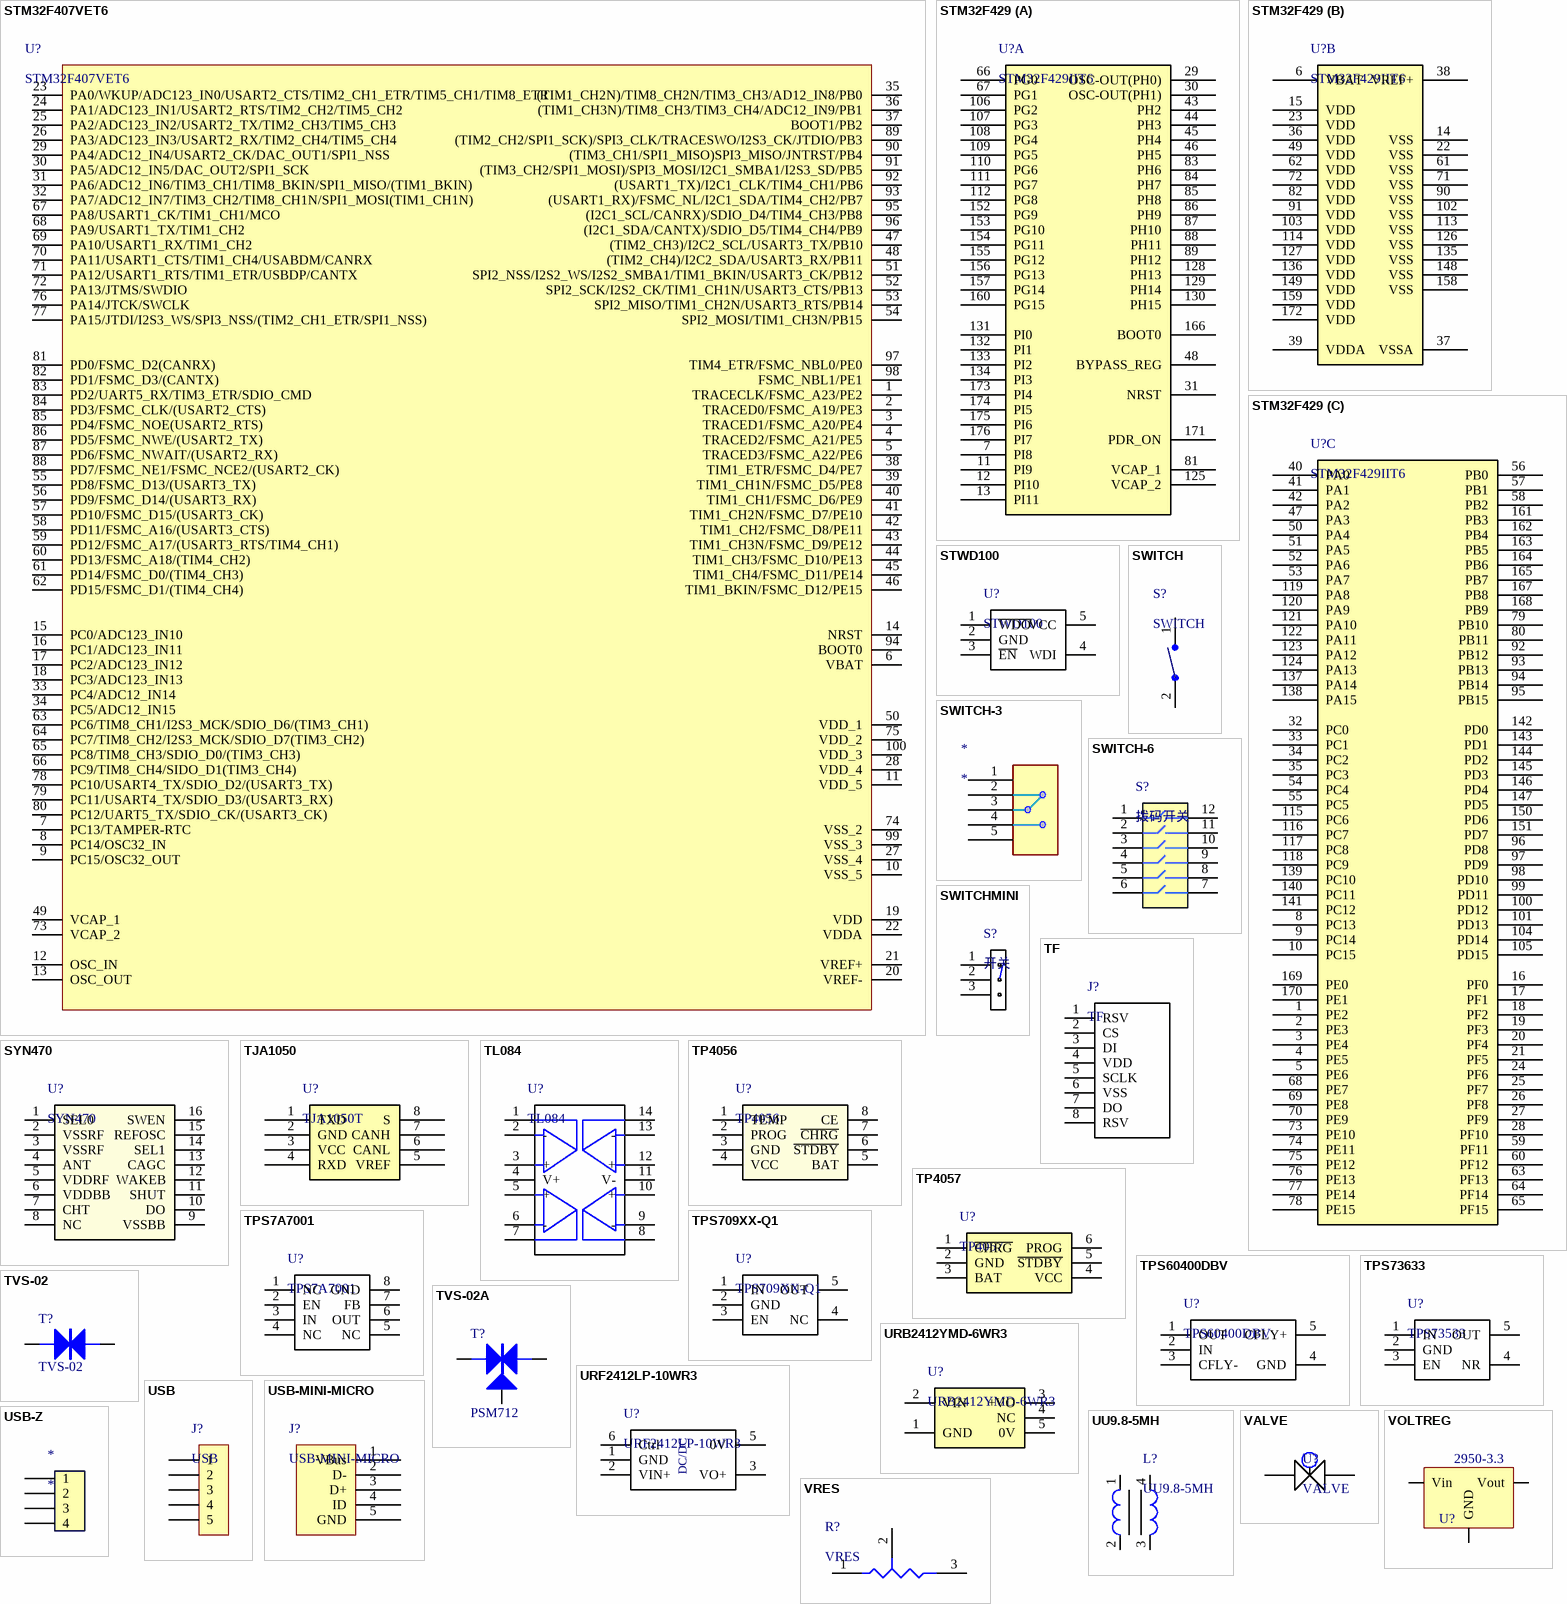
[diagram p9: symbols STM32F407VET6 to VRES]

## STM32F407VET6
designator U?
footprint LQFP100
pins: 1 TRACECLK/FSMC_A23/PE2, 2 TRACED0/FSMC_A19/PE3, 3 TRACED1/FSMC_A20/PE4, 4 TRACED2/FSMC_A21/PE5, 5 TRACED3/FSMC_A22/PE6, 6 VBAT, 7 PC13/TAMPER-RTC, 8 PC14/OSC32_IN, 9 PC15/OSC32_OUT, 10 VSS_5, 11 VDD_5, 12 OSC_IN, 13 OSC_OUT, 14 NRST, 15 PC0/ADC123_IN10, 16 PC1/ADC123_IN11, 17 PC2/ADC123_IN12, 18 PC3/ADC123_IN13, 19 VDD, 20 VREF-, 21 VREF+, 22 VDDA, 23 PA0/WKUP/ADC123_IN0/USART2_CTS/TIM2_CH1_ETR/TIM5_CH1/TIM8_ETR, 24 PA1/ADC123_IN1/USART2_RTS/TIM2_CH2/TIM5_CH2, 25 PA2/ADC123_IN2/USART2_TX/TIM2_CH3/TIM5_CH3, 26 PA3/ADC123_IN3/USART2_RX/TIM2_CH4/TIM5_CH4, 27 VSS_4, 28 VDD_4, 29 PA4/ADC12_IN4/USART2_CK/DAC_OUT1/SPI1_NSS, 30 PA5/ADC12_IN5/DAC_OUT2/SPI1_SCK, 31 PA6/ADC12_IN6/TIM3_CH1/TIM8_BKIN/SPI1_MISO/(TIM1_BKIN), 32 PA7/ADC12_IN7/TIM3_CH2/TIM8_CH1N/SPI1_MOSI(TIM1_CH1N), 33 PC4/ADC12_IN14, 34 PC5/ADC12_IN15, 35 (TIM1_CH2N)/TIM8_CH2N/TIM3_CH3/AD12_IN8/PB0, 36 (TIM1_CH3N)/TIM8_CH3/TIM3_CH4/ADC12_IN9/PB1, 37 BOOT1/PB2, 38 TIM1_ETR/FSMC_D4/PE7, 39 TIM1_CH1N/FSMC_D5/PE8, 40 TIM1_CH1/FSMC_D6/PE9, 41 TIM1_CH2N/FSMC_D7/PE10, 42 TIM1_CH2/FSMC_D8/PE11, 43 TIM1_CH3N/FSMC_D9/PE12, 44 TIM1_CH3/FSMC_D10/PE13, 45 TIM1_CH4/FSMC_D11/PE14, 46 TIM1_BKIN/FSMC_D12/PE15, 47 (TIM2_CH3)/I2C2_SCL/USART3_TX/PB10, 48 (TIM2_CH4)/I2C2_SDA/USART3_RX/PB11, 49 VCAP_1, 50 VDD_1, 51 SPI2_NSS/I2S2_WS/I2S2_SMBA1/TIM1_BKIN/USART3_CK/PB12, 52 SPI2_SCK/I2S2_CK/TIM1_CH1N/USART3_CTS/PB13, 53 SPI2_MISO/TIM1_CH2N/USART3_RTS/PB14, 54 SPI2_MOSI/TIM1_CH3N/PB15, 55 PD8/FSMC_D13/(USART3_TX), 56 PD9/FSMC_D14/(USART3_RX), 57 PD10/FSMC_D15/(USART3_CK), 58 PD11/FSMC_A16/(USART3_CTS), 59 PD12/FSMC_A17/(USART3_RTS/TIM4_CH1), 60 PD13/FSMC_A18/(TIM4_CH2), 61 PD14/FSMC_D0/(TIM4_CH3), 62 PD15/FSMC_D1/(TIM4_CH4), 63 PC6/TIM8_CH1/I2S3_MCK/SDIO_D6/(TIM3_CH1), 64 PC7/TIM8_CH2/I2S3_MCK/SDIO_D7(TIM3_CH2), 65 PC8/TIM8_CH3/SDIO_D0/(TIM3_CH3), 66 PC9/TIM8_CH4/SIDO_D1(TIM3_CH4), 67 PA8/USART1_CK/TIM1_CH1/MCO, 68 PA9/USART1_TX/TIM1_CH2, 69 PA10/USART1_RX/TIM1_CH2, 70 PA11/USART1_CTS/TIM1_CH4/USABDM/CANRX, 71 PA12/USART1_RTS/TIM1_ETR/USBDP/CANTX, 72 PA13/JTMS/SWDIO, 73 VCAP_2, 74 VSS_2, 75 VDD_2, 76 PA14/JTCK/SWCLK, 77 PA15/JTDI/I2S3_WS/SPI3_NSS/(TIM2_CH1_ETR/SPI1_NSS), 78 PC10/USART4_TX/SDIO_D2/(USART3_TX), 79 PC11/USART4_TX/SDIO_D3/(USART3_RX), 80 PC12/UART5_TX/SDIO_CK/(USART3_CK), 81 PD0/FSMC_D2(CANRX), 82 PD1/FSMC_D3/(CANTX), 83 PD2/UART5_RX/TIM3_ETR/SDIO_CMD, 84 PD3/FSMC_CLK/(USART2_CTS), 85 PD4/FSMC_NOE(USART2_RTS), 86 PD5/FSMC_NWE/(USART2_TX), 87 PD6/FSMC_NWAIT/(USART2_RX), 88 PD7/FSMC_NE1/FSMC_NCE2/(USART2_CK), 89 (TIM2_CH2/SPI1_SCK)/SPI3_CLK/TRACESWO/I2S3_CK/JTDIO/PB3, 90 (TIM3_CH1/SPI1_MISO)SPI3_MISO/JNTRST/PB4, 91 (TIM3_CH2/SPI1_MOSI)/SPI3_MOSI/I2C1_SMBA1/I2S3_SD/PB5, 92 (USART1_TX)/I2C1_CLK/TIM4_CH1/PB6, 93 (USART1_RX)/FSMC_NL/I2C1_SDA/TIM4_CH2/PB7, 94 BOOT0, 95 (I2C1_SCL/CANRX)/SDIO_D4/TIM4_CH3/PB8, 96 (I2C1_SDA/CANTX)/SDIO_D5/TIM4_CH4/PB9, 97 TIM4_ETR/FSMC_NBL0/PE0, 98 FSMC_NBL1/PE1, 99 VSS_3, 100 VDD_3

## STM32F429
designator U?, comment STM32F429IIT6
footprint LQFP176
part A pins: 7 PI8, 11 PI9, 12 PI10, 13 PI11, 29 OSC-OUT(PH0), 30 OSC-OUT(PH1), 31 NRST, 43 PH2, 44 PH3, 45 PH4, 46 PH5, 48 BYPASS_REG, 66 PG0, 67 PG1, 81 VCAP_1, 83 PH6, 84 PH7, 85 PH8, 86 PH9, 87 PH10, 88 PH11, 89 PH12, 106 PG2, 107 PG3, 108 PG4, 109 PG5, 110 PG6, 111 PG7, 112 PG8, 125 VCAP_2, 128 PH13, 129 PH14, 130 PH15, 131 PI0, 132 PI1, 133 PI2, 134 PI3, 152 PG9, 153 PG10, 154 PG11, 155 PG12, 156 PG13, 157 PG14, 160 PG15, 166 BOOT0, 171 PDR_ON, 173 PI4, 174 PI5, 175 PI6, 176 PI7
part B pins: 6 VBAT, 14 VSS, 15 VDD, 22 VSS, 23 VDD, 36 VDD, 37 VSSA, 38 VREF+, 39 VDDA, 49 VDD, 61 VSS, 62 VDD, 71 VSS, 72 VDD, 82 VDD, 90 VSS, 91 VDD, 102 VSS, 103 VDD, 113 VSS, 114 VDD, 126 VSS, 127 VDD, 135 VSS, 136 VDD, 148 VSS, 149 VDD, 158 VSS, 159 VDD, 172 VDD
part C pins: 1 PE2, 2 PE3, 3 PE4, 4 PE5, 5 PE6, 8 PC13, 9 PC14, 10 PC15, 16 PF0, 17 PF1, 18 PF2, 19 PF3, 20 PF4, 21 PF5, 24 PF6, 25 PF7, 26 PF8, 27 PF9, 28 PF10, 32 PC0, 33 PC1, 34 PC2, 35 PC3, 40 PA0, 41 PA1, 42 PA2, 47 PA3, 50 PA4, 51 PA5, 52 PA6, 53 PA7, 54 PC4, 55 PC5, 56 PB0, 57 PB1, 58 PB2, 59 PF11, 60 PF12, 63 PF13, 64 PF14, 65 PF15, 68 PE7, 69 PE8, 70 PE9, 73 PE10, 74 PE11, 75 PE12, 76 PE13, 77 PE14, 78 PE15, 79 PB10, 80 PB11, 92 PB12, 93 PB13, 94 PB14, 95 PB15, 96 PD8, 97 PD9, 98 PD10, 99 PD11, 100 PD12, 101 PD13, 104 PD14, 105 PD15, 115 PC6, 116 PC7, 117 PC8, 118 PC9, 119 PA8, 120 PA9, 121 PA10, 122 PA11, 123 PA12, 124 PA13, 137 PA14, 138 PA15, 139 PC10, 140 PC11, 141 PC12, 142 PD0, 143 PD1, 144 PD2, 145 PD3, 146 PD4, 147 PD5, 150 PD6, 151 PD7, 161 PB3, 162 PB4, 163 PB5, 164 PB6, 165 PB7, 167 PB8, 168 PB9, 169 PE0, 170 PE1

## STWD100
designator U?
footprint SOT23-5
pins: 1 ~{WDO}, 2 GND, 3 ~{EN}, 4 WDI, 5 VCC

## SWITCH
designator S?
footprint SWITCH-2
pins: 1, 2

## SWITCH-3
designator *
footprint SWITCH-5
pins: 1, 2, 3, 4, 5

## SWITCH-6
designator S?, comment 拨码开关
footprint SDIP-12
pins: 1, 2, 3, 4, 5, 6, 7, 8, 9, 10, 11, 12

## SWITCHMINI
designator S?, comment 开关
footprint SWITCHMINI
pins: 1, 2, 3

## SYN470
designator U?
footprint SO-16
pins: 1 SEL0, 2 VSSRF, 3 VSSRF, 4 ANT, 5 VDDRF, 6 VDDBB, 7 CHT, 8 NC, 9 VSSBB, 10 DO, 11 SHUT, 12 WAKEB, 13 CAGC, 14 SEL1, 15 REFOSC, 16 SWEN

## TF
designator J?
footprint TF_CARD
pins: 1 RSV, 2 CS, 3 DI, 4 VDD, 5 SCLK, 6 VSS, 7 DO, 8 RSV

## TJA1050
designator U?, comment TJA1050T
footprint SO-8
pins: 1 TXD, 2 GND, 3 VCC, 4 RXD, 5 VREF, 6 CANL, 7 CANH, 8 S

## TL084
designator U?
footprint TSSOP14
pins: 1, 2 -, 3 +, 4 V+, 5 +, 6 -, 7, 8, 9 -, 10 +, 11 V-, 12 +, 13 -, 14

## TP4056
designator U?
footprint SOP8
footprint SOP8-2
pins: 1 TEMP, 2 PROG, 3 GND, 4 VCC, 5 BAT, 6 ~{STDBY}, 7 ~{CHRG}, 8 CE

## TP4057
designator U?
footprint SOT-23-6
pins: 1 ~{CHRG}, 2 GND, 3 BAT, 4 VCC, 5 ~{STDBY}, 6 PROG

## TPS7A7001
designator U?
footprint SOP8-2
pins: 1 NC, 2 EN, 3 IN, 4 NC, 5 NC, 6 OUT, 7 FB, 8 GND

## TPS709XX-Q1
designator U?
footprint SOT23-5
pins: 1 IN, 2 GND, 3 EN, 4 NC, 5 OUT

## TPS60400DBV
designator U?
footprint SOT23-5
pins: 1 OUT, 2 IN, 3 CFLY-, 4 GND, 5 CFLY+

## TPS73633
designator U?, comment TPS73533
footprint SOT23-5
pins: 1 IN, 2 GND, 3 EN, 4 NR, 5 OUT

## TVS-02
designator T?
footprint 1812
footprint 1006P2
pins: 1 A, 2 K

## TVS-02A
designator T?, comment PSM712
footprint SOT-23
pins: 1 A, 2 K, 3 G

## URB2412YMD-6WR3
designator U?
footprint URB_YMD-6WR3
pins: 1 GND, 2 VIN, 3 +VO, 4 NC, 5 0V

## URF2412LP-10WR3
designator U?
footprint DC/DC
pins: 1 GND, 2 VIN+, 3 VO+, 5 0V, 6 Ctrl
text: DC/DC

## USB
designator J?
footprint USB-A
pins: 1, 2, 3, 4, 5

## USB-MINI-MICRO
designator J?
footprint USB_micro
pins: 1 VBus, 2 D-, 3 D+, 4 ID, 5 GND

## USB-Z
designator *
footprint USBZ
pins: 1, 2, 3, 4

## UU9.8-5MH
designator L?
footprint 7*8mm
footprint L0505
pins: 1, 2, 3, 4

## VALVE
designator U?
pins: 1, 2

## VOLTREG
designator U?, comment 2950-3.3
footprint TO-92A
pins: 1 Vin, 2 GND, 3 Vout

## VRES
designator R?
footprint 3313J-1
pins: 1, 2, 3

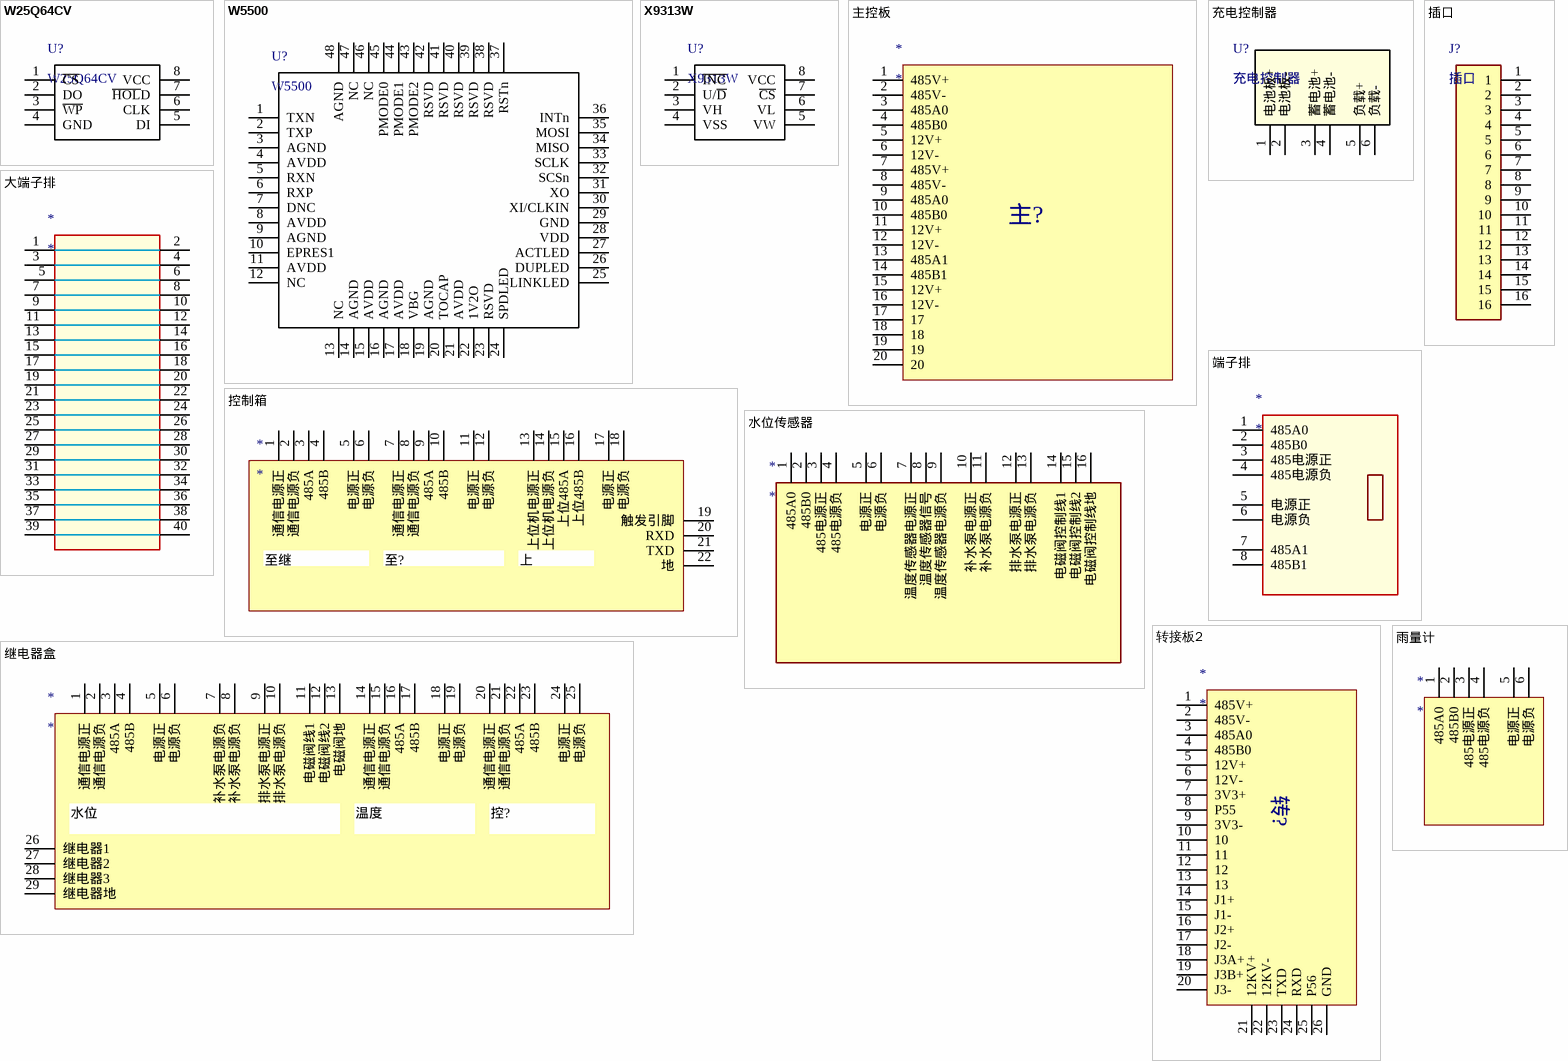
[diagram p10: symbols W25Q64CV to 雨量计]

## W25Q64CV
designator U?
footprint SOIC8
pins: 1 ~{CS}, 2 DO, 3 ~{WP}, 4 GND, 5 DI, 6 CLK, 7 ~{HOL}D, 8 VCC

## W5500
designator U?
footprint LC-LQFP-48_7x7x05P
pins: 1 TXN, 2 TXP, 3 AGND, 4 AVDD, 5 RXN, 6 RXP, 7 DNC, 8 AVDD, 9 AGND, 10 EPRES1, 11 AVDD, 12 NC, 13 NC, 14 AGND, 15 AVDD, 16 AGND, 17 AVDD, 18 VBG, 19 AGND, 20 TOCAP, 21 AVDD, 22 1V2O, 23 RSVD, 24 SPDLED, 25 LINKLED, 26 DUPLED, 27 ACTLED, 28 VDD, 29 GND, 30 XI/CLKIN, 31 XO, 32 SCSn, 33 SCLK, 34 MISO, 35 MOSI, 36 INTn, 37 RSTn, 38 RSVD, 39 RSVD, 40 RSVD, 41 RSVD, 42 RSVD, 43 PMODE2, 44 PMODE1, 45 PMODE0, 46 NC, 47 NC, 48 AGND

## X9313W
designator U?
footprint DIP8-2
pins: 1 ~{INC}, 2 U/~{D}, 3 VH, 4 VSS, 5 VW, 6 VL, 7 ~{CS}, 8 VCC